# Altium schematic symbol library MCU_Module.SchLib: 53 symbols (part 1 of 2)
Pins are listed as number, name and electrical type; pins without a type are passive.

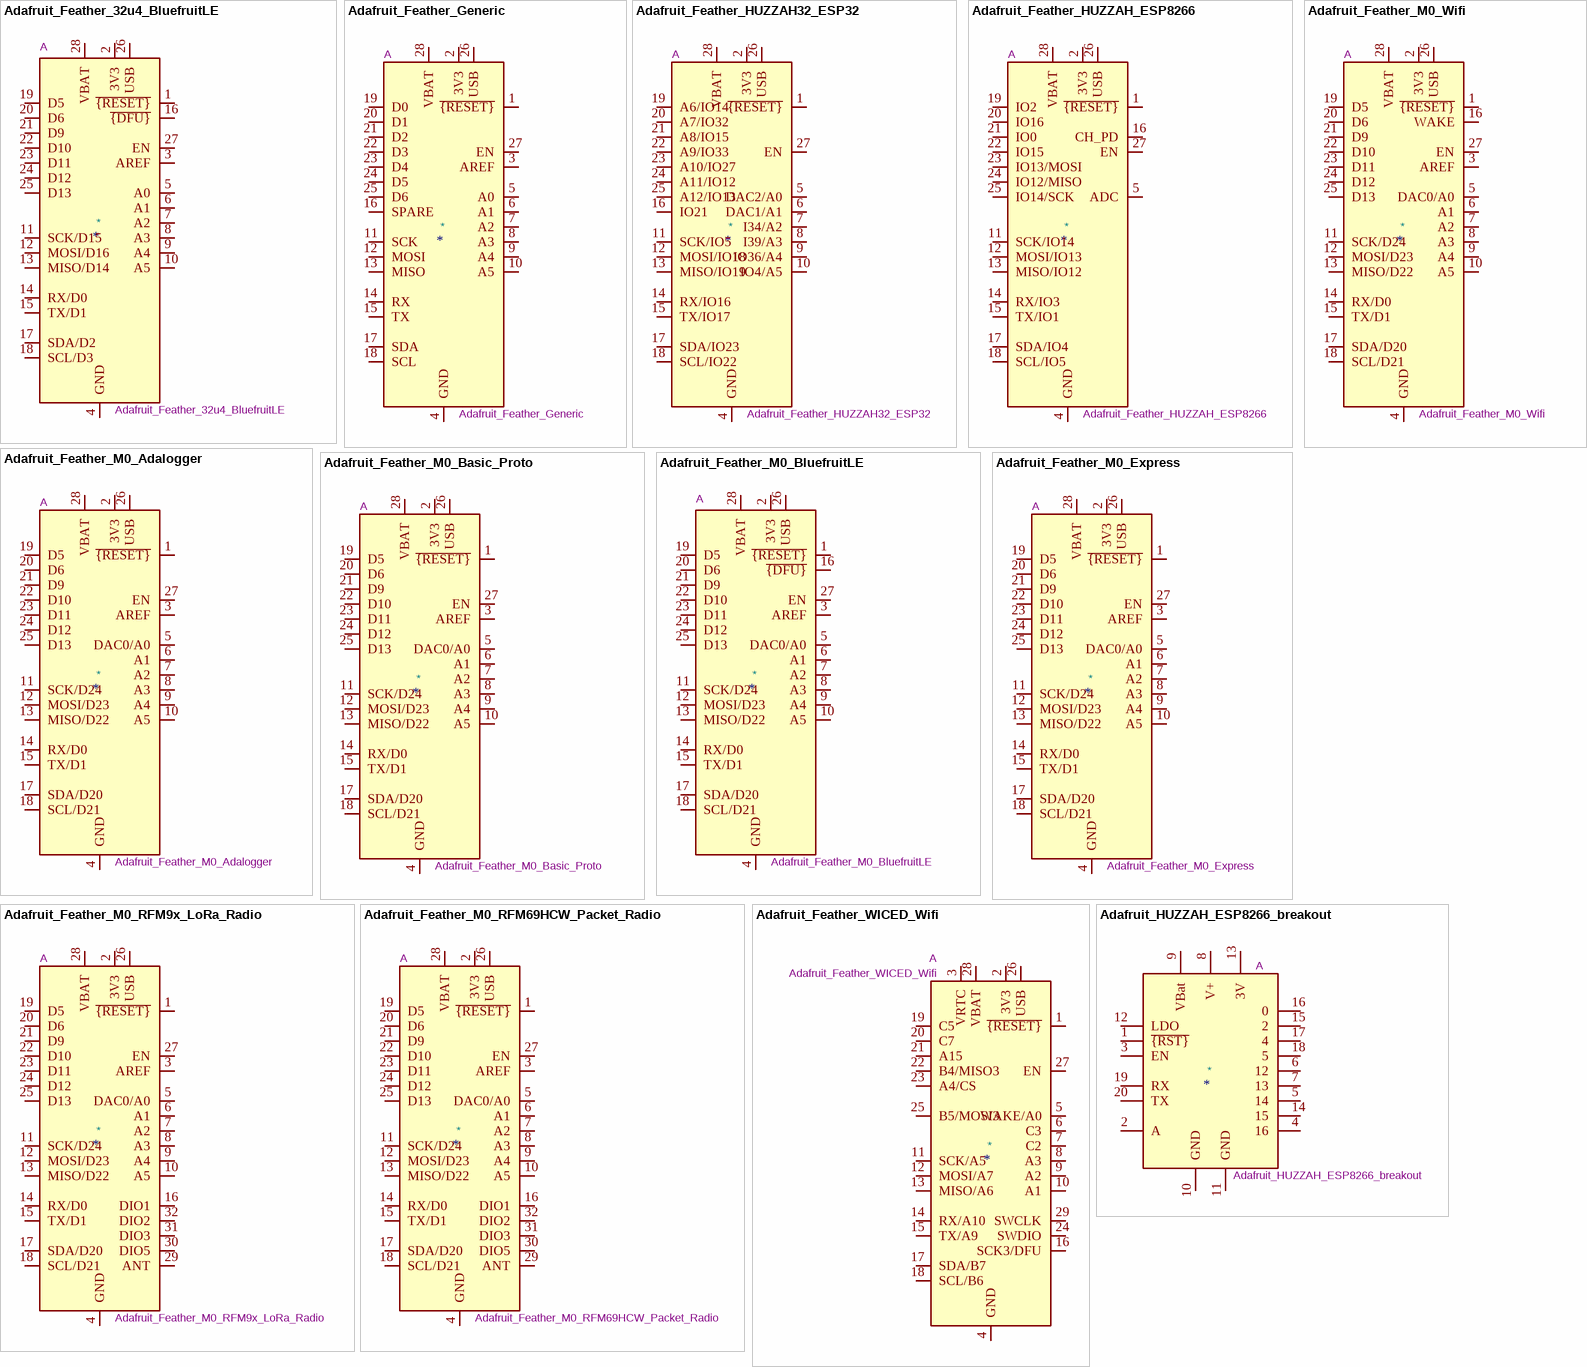
[diagram p0: symbols Adafruit_Feather_32u4_BluefruitLE to Adafruit_HUZZAH_ESP8266_breakout]

## Adafruit_Feather_32u4_BluefruitLE
designator *  value Adafruit_Feather_32u4_BluefruitLE  Reference: A
ki_keywords: Adafruit feather microcontroller module USB AVR ATmega32U4  Bluetooth BLE; ki_description: Microcontroller module with ATmega32u4 MCU and bluetooth; ki_fp_filters: Adafruit*Feather*; Footprint: Module:Adafruit_Feather; Datasheet: https://cdn-learn.adafruit.com/downloads/pdf/adafruit-feather-32u4-bluefruit-le.pdf
pins: 1 ~{{RESET}}, 2 3V3, 3 AREF, 4 GND, 5 A0, 6 A1, 7 A2, 8 A3, 9 A4, 10 A5, 11 SCK/D15, 12 MOSI/D16, 13 MISO/D14, 14 RX/D0, 15 TX/D1, 16 ~{{DFU}}, 17 SDA/D2, 18 SCL/D3, 19 D5, 20 D6, 21 D9, 22 D10, 23 D11, 24 D12, 25 D13, 26 USB, 27 EN, 28 VBAT

## Adafruit_Feather_Generic
designator *  value Adafruit_Feather_Generic  Reference: A
ki_keywords: Adafruit feather microcontroller module; ki_description: Microcontroller module in various flavor, generic symbol; ki_fp_filters: Adafruit*Feather*; Footprint: Module:Adafruit_Feather; Datasheet: https://cdn-learn.adafruit.com/downloads/pdf/adafruit-feather.pdf
pins: 1 ~{{RESET}}, 2 3V3, 3 AREF, 4 GND, 5 A0, 6 A1, 7 A2, 8 A3, 9 A4, 10 A5, 11 SCK, 12 MOSI, 13 MISO, 14 RX, 15 TX, 16 SPARE, 17 SDA, 18 SCL, 19 D0, 20 D1, 21 D2, 22 D3, 23 D4, 24 D5, 25 D6, 26 USB, 27 EN, 28 VBAT

## Adafruit_Feather_HUZZAH32_ESP32
designator *  value Adafruit_Feather_HUZZAH32_ESP32  Reference: A
ki_keywords: Adafruit feather microcontroller module USB; ki_description: Microcontroller module with ESP32 MCU; ki_fp_filters: Adafruit*Feather*; Footprint: Module:Adafruit_Feather; Datasheet: https://cdn-learn.adafruit.com/downloads/pdf/adafruit-huzzah32-esp32-feather.pdf
pins: 1 ~{{RESET}}, 2 3V3, 3 NC hidden, 4 GND, 5 DAC2/A0, 6 DAC1/A1, 7 I34/A2, 8 I39/A3, 9 IO36/A4, 10 IO4/A5, 11 SCK/IO5, 12 MOSI/IO18, 13 MISO/IO19, 14 RX/IO16, 15 TX/IO17, 16 IO21, 17 SDA/IO23, 18 SCL/IO22, 19 A6/IO14, 20 A7/IO32, 21 A8/IO15, 22 A9/IO33, 23 A10/IO27, 24 A11/IO12, 25 A12/IO13, 26 USB, 27 EN, 28 VBAT

## Adafruit_Feather_HUZZAH_ESP8266
designator *  value Adafruit_Feather_HUZZAH_ESP8266  Reference: A
ki_keywords: Adafruit feather microcontroller module USB; ki_description: Microcontroller module with ESP8266 MCU; ki_fp_filters: Adafruit*Feather*; Footprint: Module:Adafruit_Feather; Datasheet: https://cdn-learn.adafruit.com/downloads/pdf/adafruit-feather-huzzah-esp8266.pdf
pins: 1 ~{{RESET}}, 2 3V3, 3 NC hidden, 4 GND, 5 ADC, 6 NC hidden, 7 NC hidden, 8 NC hidden, 9 NC hidden, 10 NC hidden, 11 SCK/IO14, 12 MOSI/IO13, 13 MISO/IO12, 14 RX/IO3, 15 TX/IO1, 16 CH_PD, 17 SDA/IO4, 18 SCL/IO5, 19 IO2, 20 IO16, 21 IO0, 22 IO15, 23 IO13/MOSI, 24 IO12/MISO, 25 IO14/SCK, 26 USB, 27 EN, 28 VBAT

## Adafruit_Feather_M0_Adalogger
designator *  value Adafruit_Feather_M0_Adalogger  Reference: A
ki_keywords: Adafruit feather microcontroller module USB SD; ki_description: Microcontroller module with SAMD21 Cortex-M0 MCU and SD card reader; ki_fp_filters: Adafruit*Feather*; Footprint: Module:Adafruit_Feather; Datasheet: https://cdn-learn.adafruit.com/downloads/pdf/adafruit-feather-m0-adalogger.pdf
pins: 1 ~{{RESET}}, 2 3V3, 3 AREF, 4 GND, 5 DAC0/A0, 6 A1, 7 A2, 8 A3, 9 A4, 10 A5, 11 SCK/D24, 12 MOSI/D23, 13 MISO/D22, 14 RX/D0, 15 TX/D1, 16 GND hidden, 17 SDA/D20, 18 SCL/D21, 19 D5, 20 D6, 21 D9, 22 D10, 23 D11, 24 D12, 25 D13, 26 USB, 27 EN, 28 VBAT

## Adafruit_Feather_M0_Basic_Proto
designator *  value Adafruit_Feather_M0_Basic_Proto  Reference: A
ki_keywords: Adafruit feather microcontroller module USB M0 SAMD21; ki_description: Microcontroller module with SAMD21 Cortex-M0 MCU; ki_fp_filters: Adafruit*Feather*; Footprint: Module:Adafruit_Feather; Datasheet: https://cdn-learn.adafruit.com/downloads/pdf/adafruit-feather-m0-basic-proto.pdf
pins: 1 ~{{RESET}}, 2 3V3, 3 AREF, 4 GND, 5 DAC0/A0, 6 A1, 7 A2, 8 A3, 9 A4, 10 A5, 11 SCK/D24, 12 MOSI/D23, 13 MISO/D22, 14 RX/D0, 15 TX/D1, 16 GND hidden, 17 SDA/D20, 18 SCL/D21, 19 D5, 20 D6, 21 D9, 22 D10, 23 D11, 24 D12, 25 D13, 26 USB, 27 EN, 28 VBAT

## Adafruit_Feather_M0_BluefruitLE
designator *  value Adafruit_Feather_M0_BluefruitLE  Reference: A
ki_keywords: Adafruit feather microcontroller module USB M0 SAMD21 Bluetooth BLE; ki_description: Microcontroller module with SAMD21 Cortex-M0 MCU and bluetooth; ki_fp_filters: Adafruit*Feather*; Footprint: Module:Adafruit_Feather; Datasheet: https://cdn-learn.adafruit.com/downloads/pdf/adafruit-feather-m0-bluefruit-le.pdf
pins: 1 ~{{RESET}}, 2 3V3, 3 AREF, 4 GND, 5 DAC0/A0, 6 A1, 7 A2, 8 A3, 9 A4, 10 A5, 11 SCK/D24, 12 MOSI/D23, 13 MISO/D22, 14 RX/D0, 15 TX/D1, 16 ~{{DFU}}, 17 SDA/D20, 18 SCL/D21, 19 D5, 20 D6, 21 D9, 22 D10, 23 D11, 24 D12, 25 D13, 26 USB, 27 EN, 28 VBAT

## Adafruit_Feather_M0_Express
designator *  value Adafruit_Feather_M0_Express  Reference: A
ki_keywords: Adafruit feather microcontroller module USB SPI Flash CircuitPython; ki_description: Microcontroller module with SAMD21 Cortex-M0 MCU and SPI Flash; ki_fp_filters: Adafruit*Feather*; Footprint: Module:Adafruit_Feather; Datasheet: https://cdn-learn.adafruit.com/downloads/pdf/adafruit-feather-m0-express-designed-for-circuit-python-circuitpython.pdf
pins: 1 ~{{RESET}}, 2 3V3, 3 AREF, 4 GND, 5 DAC0/A0, 6 A1, 7 A2, 8 A3, 9 A4, 10 A5, 11 SCK/D24, 12 MOSI/D23, 13 MISO/D22, 14 RX/D0, 15 TX/D1, 16 GND hidden, 17 SDA/D20, 18 SCL/D21, 19 D5, 20 D6, 21 D9, 22 D10, 23 D11, 24 D12, 25 D13, 26 USB, 27 EN, 28 VBAT

## Adafruit_Feather_M0_RFM9x_LoRa_Radio
designator *  value Adafruit_Feather_M0_RFM9x_LoRa_Radio  Reference: A
ki_keywords: Adafruit feather microcontroller module USB M0 SAMD21 LoRa Radio; ki_description: Microcontroller module with SAMD21 Cortex-M0 MCU and RFM9x Radio; ki_fp_filters: Adafruit*Feather*; Footprint: Module:Adafruit_Feather_M0_RFM; Datasheet: https://cdn-learn.adafruit.com/downloads/pdf/adafruit-feather-m0-radio-with-lora-radio-module.pdf
pins: 1 ~{{RESET}}, 2 3V3, 3 AREF, 4 GND, 5 DAC0/A0, 6 A1, 7 A2, 8 A3, 9 A4, 10 A5, 11 SCK/D24, 12 MOSI/D23, 13 MISO/D22, 14 RX/D0, 15 TX/D1, 16 DIO1, 17 SDA/D20, 18 SCL/D21, 19 D5, 20 D6, 21 D9, 22 D10, 23 D11, 24 D12, 25 D13, 26 USB, 27 EN, 28 VBAT, 29 ANT, 30 DIO5, 31 DIO3, 32 DIO2

## Adafruit_Feather_M0_RFM69HCW_Packet_Radio
designator *  value Adafruit_Feather_M0_RFM69HCW_Packet_Radio  Reference: A
ki_keywords: Adafruit feather microcontroller module USB M0 SAMD21 Radio; ki_description: Microcontroller module with SAMD21 Cortex-M0 MCU and RFM69HCW Radio; ki_fp_filters: Adafruit*Feather*; Footprint: Module:Adafruit_Feather_M0_RFM; Datasheet: https://cdn-learn.adafruit.com/downloads/pdf/adafruit-feather-m0-radio-with-rfm69-packet-radio.pdf
pins: 1 ~{{RESET}}, 2 3V3, 3 AREF, 4 GND, 5 DAC0/A0, 6 A1, 7 A2, 8 A3, 9 A4, 10 A5, 11 SCK/D24, 12 MOSI/D23, 13 MISO/D22, 14 RX/D0, 15 TX/D1, 16 DIO1, 17 SDA/D20, 18 SCL/D21, 19 D5, 20 D6, 21 D9, 22 D10, 23 D11, 24 D12, 25 D13, 26 USB, 27 EN, 28 VBAT, 29 ANT, 30 DIO5, 31 DIO3, 32 DIO2

## Adafruit_Feather_M0_Wifi
designator *  value Adafruit_Feather_M0_Wifi  Reference: A
ki_keywords: Adafruit feather microcontroller module USB M0 SAMD21 Wifi ATWINC1500; ki_description: Microcontroller module with SAMD21 Cortex-M0 MCU and ATWINC1500 Wifi; ki_fp_filters: Adafruit*Feather*; Footprint: Module:Adafruit_Feather_M0_Wifi; Datasheet: https://cdn-learn.adafruit.com/downloads/pdf/adafruit-feather-m0-wifi-atwinc1500.pdf
pins: 1 ~{{RESET}}, 2 3V3, 3 AREF, 4 GND, 5 DAC0/A0, 6 A1, 7 A2, 8 A3, 9 A4, 10 A5, 11 SCK/D24, 12 MOSI/D23, 13 MISO/D22, 14 RX/D0, 15 TX/D1, 16 WAKE, 17 SDA/D20, 18 SCL/D21, 19 D5, 20 D6, 21 D9, 22 D10, 23 D11, 24 D12, 25 D13, 26 USB, 27 EN, 28 VBAT

## Adafruit_Feather_WICED_Wifi
designator *  value Adafruit_Feather_WICED_Wifi  Reference: A
ki_keywords: Adafruit feather microcontroller module USB M3 STM32F205 Wifi; ki_description: Microcontroller module with STM32F205 Cortex-M3 MCU and BCM43362 Wifi; ki_fp_filters: Adafruit*Feather*; Footprint: Module:Adafruit_Feather_WICED; Datasheet: https://cdn-learn.adafruit.com/downloads/pdf/introducing-the-adafruit-wiced-feather-wifi.pdf
pins: 1 ~{{RESET}}, 2 3V3, 3 VRTC, 4 GND, 5 WAKE/A0, 6 C3, 7 C2, 8 A3, 9 A2, 10 A1, 11 SCK/A5, 12 MOSI/A7, 13 MISO/A6, 14 RX/A10, 15 TX/A9, 16 SCK3/DFU, 17 SDA/B7, 18 SCL/B6, 19 C5, 20 C7, 21 A15, 22 B4/MISO3, 23 A4/CS, 24 SWDIO, 25 B5/MOSI3, 26 USB, 27 EN, 28 VBAT, 29 SWCLK

## Adafruit_HUZZAH_ESP8266_breakout
designator *  value Adafruit_HUZZAH_ESP8266_breakout  Reference: A
ki_keywords: ESP8266 WiFi microcontroller; ki_description: 32-bit microcontroller module with WiFi; ki_fp_filters: Adafruit*HUZZAH*ESP8266*breakout* Adafruit*HUZZAH*ESP8266*breakout*WithMountingHoles*; Datasheet: https://www.adafruit.com/product/2471
pins: 1 ~{{RST}}, 2 A, 3 EN, 4 16, 5 14, 6 12, 7 13, 8 V+, 9 VBat, 10 GND, 11 GND, 12 LDO, 13 3V, 14 15, 15 2, 16 0, 17 4, 18 5, 19 RX, 20 TX

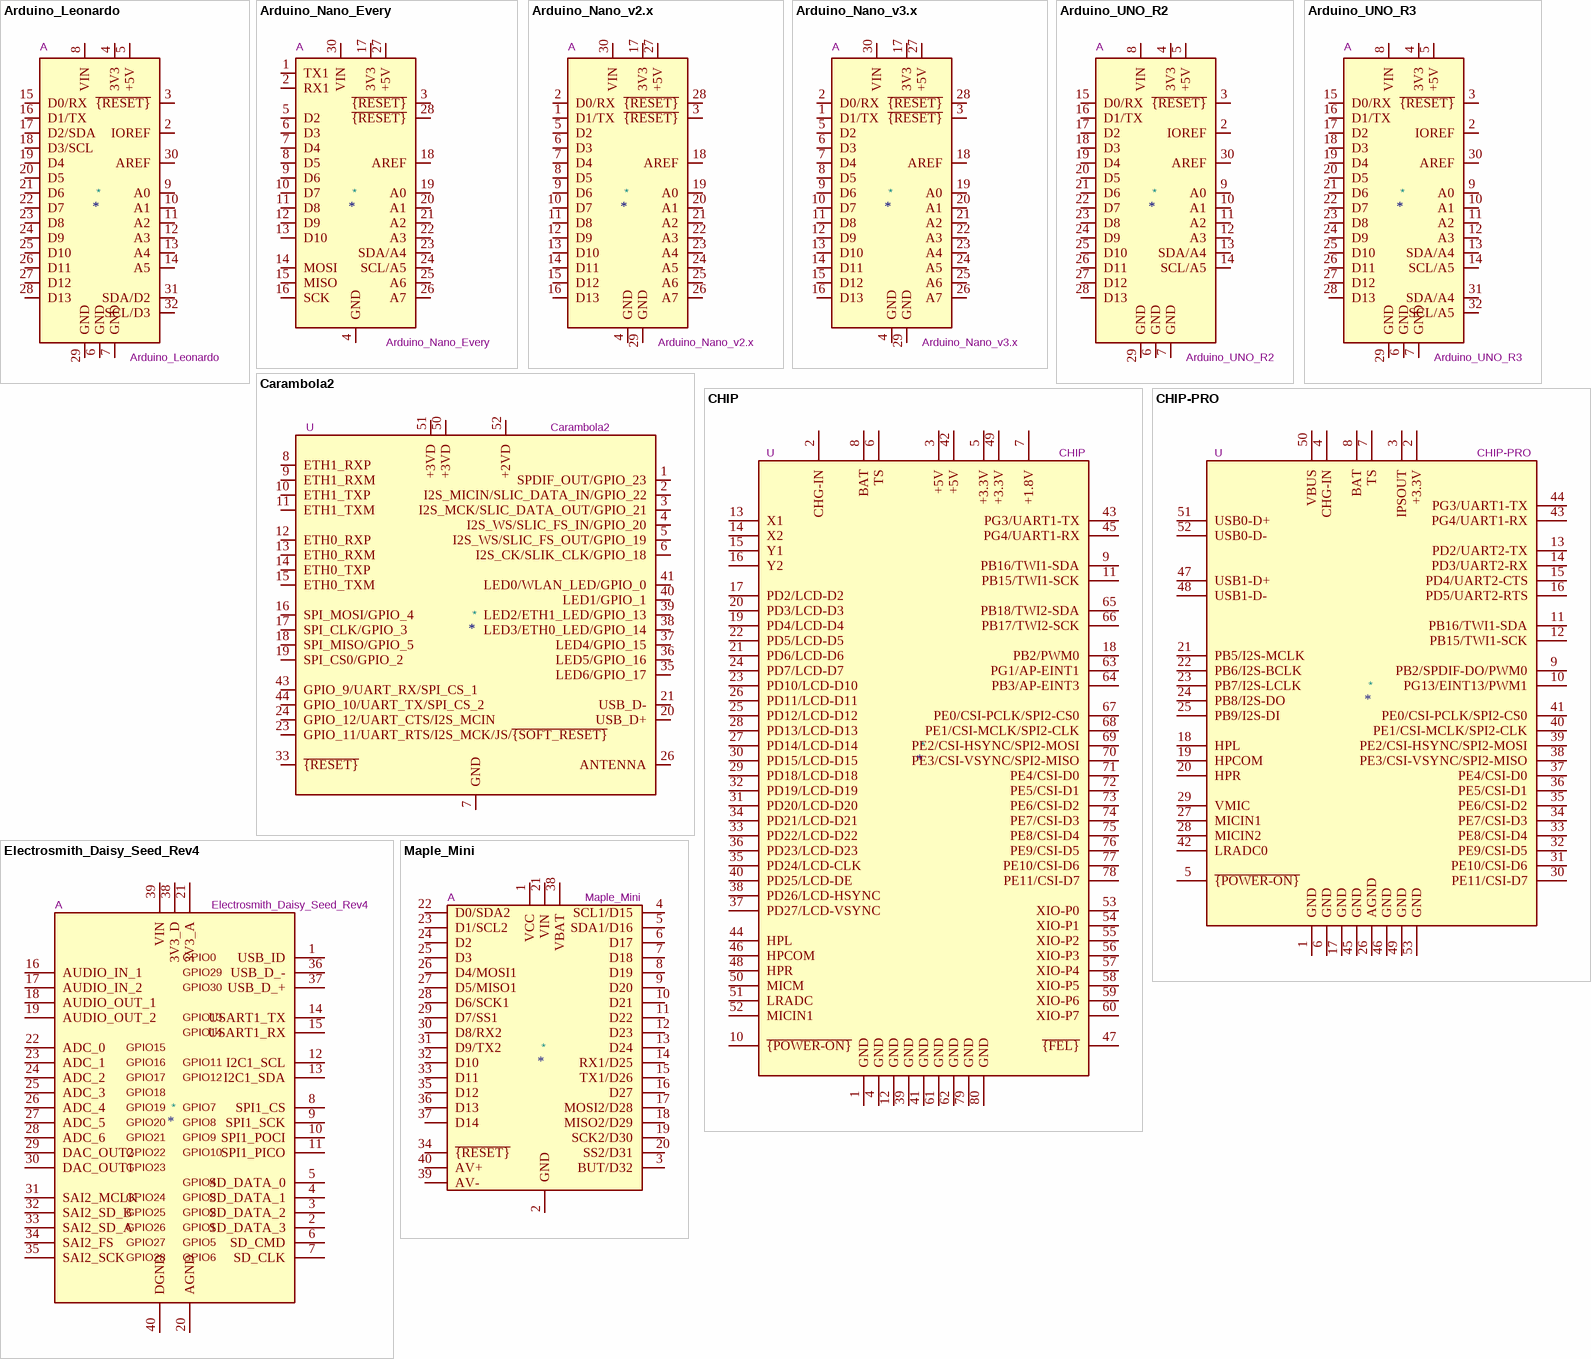
[diagram p1: symbols Arduino_Leonardo to Maple_Mini]

## Arduino_Leonardo
designator *  value Arduino_Leonardo  Reference: A
ki_keywords: Arduino LEONARDO Microcontroller Module Atmel AVR USB; ki_description: Arduino LEONARDO Microcontroller Module; ki_fp_filters: Arduino*UNO*R3*; Footprint: Module:Arduino_UNO_R3; Datasheet: https://www.arduino.cc/en/Main/ArduinoBoardLeonardo
pins: 1 NC hidden, 2 IOREF, 3 ~{{RESET}}, 4 3V3, 5 +5V, 6 GND, 7 GND, 8 VIN, 9 A0, 10 A1, 11 A2, 12 A3, 13 A4, 14 A5, 15 D0/RX, 16 D1/TX, 17 D2/SDA, 18 D3/SCL, 19 D4, 20 D5, 21 D6, 22 D7, 23 D8, 24 D9, 25 D10, 26 D11, 27 D12, 28 D13, 29 GND, 30 AREF, 31 SDA/D2, 32 SCL/D3

## Arduino_Nano_Every
designator *  value Arduino_Nano_Every  Reference: A
ki_keywords: Arduino nano microcontroller module USB UPDI AATMega4809 AVR; ki_description: Arduino Nano Every; ki_fp_filters: Arduino*Nano*; Footprint: Module:Arduino_Nano; Datasheet: https://content.arduino.cc/assets/NANOEveryV3.0_sch.pdf
pins: 1 TX1, 2 RX1, 3 ~{{RESET}}, 4 GND, 5 D2, 6 D3, 7 D4, 8 D5, 9 D6, 10 D7, 11 D8, 12 D9, 13 D10, 14 MOSI, 15 MISO, 16 SCK, 17 3V3, 18 AREF, 19 A0, 20 A1, 21 A2, 22 A3, 23 SDA/A4, 24 SCL/A5, 25 A6, 26 A7, 27 +5V, 28 ~{{RESET}}, 29 GND hidden, 30 VIN

## Arduino_Nano_v2.x
designator *  value Arduino_Nano_v2.x  Reference: A
ki_keywords: Arduino nano microcontroller module USB; ki_description: Arduino Nano v2.x; ki_fp_filters: Arduino*Nano*; Footprint: Module:Arduino_Nano; Datasheet: https://www.arduino.cc/en/uploads/Main/ArduinoNanoManual23.pdf
pins: 1 D1/TX, 2 D0/RX, 3 ~{{RESET}}, 4 GND, 5 D2, 6 D3, 7 D4, 8 D5, 9 D6, 10 D7, 11 D8, 12 D9, 13 D10, 14 D11, 15 D12, 16 D13, 17 3V3, 18 AREF, 19 A0, 20 A1, 21 A2, 22 A3, 23 A4, 24 A5, 25 A6, 26 A7, 27 +5V, 28 ~{{RESET}}, 29 GND, 30 VIN

## Arduino_Nano_v3.x
designator *  value Arduino_Nano_v3.x  Reference: A
ki_keywords: Arduino nano microcontroller module USB; ki_description: Arduino Nano v3.x; ki_fp_filters: Arduino*Nano*; Footprint: Module:Arduino_Nano; Datasheet: http://www.mouser.com/pdfdocs/Gravitech_Arduino_Nano3_0.pdf
pins: 1 D1/TX, 2 D0/RX, 3 ~{{RESET}}, 4 GND, 5 D2, 6 D3, 7 D4, 8 D5, 9 D6, 10 D7, 11 D8, 12 D9, 13 D10, 14 D11, 15 D12, 16 D13, 17 3V3, 18 AREF, 19 A0, 20 A1, 21 A2, 22 A3, 23 A4, 24 A5, 25 A6, 26 A7, 27 +5V, 28 ~{{RESET}}, 29 GND, 30 VIN

## Arduino_UNO_R2
designator *  value Arduino_UNO_R2  Reference: A
ki_keywords: Arduino UNO R3 Microcontroller Module Atmel AVR USB; ki_description: Arduino UNO Microcontroller Module, release 2; ki_fp_filters: Arduino*UNO*R2*; Footprint: Module:Arduino_UNO_R2; Datasheet: https://www.arduino.cc/en/Main/arduinoBoardUno
pins: 1 NC hidden, 2 IOREF, 3 ~{{RESET}}, 4 3V3, 5 +5V, 6 GND, 7 GND, 8 VIN, 9 A0, 10 A1, 11 A2, 12 A3, 13 SDA/A4, 14 SCL/A5, 15 D0/RX, 16 D1/TX, 17 D2, 18 D3, 19 D4, 20 D5, 21 D6, 22 D7, 23 D8, 24 D9, 25 D10, 26 D11, 27 D12, 28 D13, 29 GND, 30 AREF

## Arduino_UNO_R3
designator *  value Arduino_UNO_R3  Reference: A
ki_keywords: Arduino UNO R3 Microcontroller Module Atmel AVR USB; ki_description: Arduino UNO Microcontroller Module, release 3; ki_fp_filters: Arduino*UNO*R3*; Footprint: Module:Arduino_UNO_R3; Datasheet: https://www.arduino.cc/en/Main/arduinoBoardUno
pins: 1 NC hidden, 2 IOREF, 3 ~{{RESET}}, 4 3V3, 5 +5V, 6 GND, 7 GND, 8 VIN, 9 A0, 10 A1, 11 A2, 12 A3, 13 SDA/A4, 14 SCL/A5, 15 D0/RX, 16 D1/TX, 17 D2, 18 D3, 19 D4, 20 D5, 21 D6, 22 D7, 23 D8, 24 D9, 25 D10, 26 D11, 27 D12, 28 D13, 29 GND, 30 AREF, 31 SDA/A4, 32 SCL/A5

## Carambola2
designator *  value Carambola2  Reference: U
ki_keywords: carambola, 8devices, openwrt, board, wlan; ki_description: Qualcomm AR9331, 16MB Flash, 64MB RAM, USB, Serial, Ethernet, GPIO, OpenWRT, industrial SoM computer; ki_fp_filters: Carambola2*; Footprint: Module:Carambola2; Datasheet: https://www.8devices.com/media/products/carambola2/downloads/carambola2-datasheet.pdf
pins: 1 SPDIF_OUT/GPIO_23, 2 I2S_MICIN/SLIC_DATA_IN/GPIO_22, 3 I2S_MCK/SLIC_DATA_OUT/GPIO_21, 4 I2S_WS/SLIC_FS_IN/GPIO_20, 5 I2S_WS/SLIC_FS_OUT/GPIO_19, 6 I2S_CK/SLIK_CLK/GPIO_18, 7 GND, 8 ETH1_RXP, 9 ETH1_RXM, 10 ETH1_TXP, 11 ETH1_TXM, 12 ETH0_RXP, 13 ETH0_RXM, 14 ETH0_TXP, 15 ETH0_TXM, 16 SPI_MOSI/GPIO_4, 17 SPI_CLK/GPIO_3, 18 SPI_MISO/GPIO_5, 19 SPI_CS0/GPIO_2, 20 USB_D+, 21 USB_D-, 22 GND hidden, 23 GPIO_11/UART_RTS/I2S_MCK/JS/~{{SOFT_RESET}}, 24 GPIO_12/UART_CTS/I2S_MCIN, 25 GND hidden, 26 ANTENNA, 27 GND hidden, 28 GND hidden, 29 GND hidden, 30 GND hidden, 31 GND hidden, 32 GND hidden, 33 ~{{RESET}}, 34 GND hidden, 35 LED6/GPIO_17, 36 LED5/GPIO_16, 37 LED4/GPIO_15, 38 LED3/ETH0_LED/GPIO_14, 39 LED2/ETH1_LED/GPIO_13, 40 LED1/GPIO_1, 41 LED0/WLAN_LED/GPIO_0, 42 GND hidden, 43 GPIO_9/UART_RX/SPI_CS_1, 44 GPIO_10/UART_TX/SPI_CS_2, 45 GND hidden, 46 GND hidden, 47 GND hidden, 48 GND hidden, 49 GND hidden, 50 +3VD, 51 +3VD, 52 +2VD

## CHIP
designator *  value CHIP  Reference: U
ki_keywords: nextthingco chip module; ki_description: NextThingCo C.H.I.P. Module; ki_fp_filters: MODULE*NEXTTHINGCO*CHIP*; Footprint: Module:MODULE_NEXTTHINGCO_CHIP; Datasheet: https://github.com/NextThingCo/CHIP-Hardware/tree/master/CHIP%5Bv1_0%5D
pins: 1 GND, 2 CHG-IN, 3 +5V, 4 GND, 5 +3.3V, 6 TS, 7 +1.8V, 8 BAT, 9 PB16/TWI1-SDA, 10 ~{{POWER-ON}}, 11 PB15/TWI1-SCK, 12 GND, 13 X1, 14 X2, 15 Y1, 16 Y2, 17 PD2/LCD-D2, 18 PB2/PWM0, 19 PD4/LCD-D4, 20 PD3/LCD-D3, 21 PD6/LCD-D6, 22 PD5/LCD-D5, 23 PD10/LCD-D10, 24 PD7/LCD-D7, 25 PD12/LCD-D12, 26 PD11/LCD-D11, 27 PD14/LCD-D14, 28 PD13/LCD-D13, 29 PD18/LCD-D18, 30 PD15/LCD-D15, 31 PD20/LCD-D20, 32 PD19/LCD-D19, 33 PD22/LCD-D22, 34 PD21/LCD-D21, 35 PD24/LCD-CLK, 36 PD23/LCD-D23, 37 PD27/LCD-VSYNC, 38 PD26/LCD-HSYNC, 39 GND, 40 PD25/LCD-DE, 41 GND, 42 +5V, 43 PG3/UART1-TX, 44 HPL, 45 PG4/UART1-RX, 46 HPCOM, 47 ~{{FEL}}, 48 HPR, 49 +3.3V, 50 MICM, 51 LRADC, 52 MICIN1, 53 XIO-P0, 54 XIO-P1, 55 XIO-P2, 56 XIO-P3, 57 XIO-P4, 58 XIO-P5, 59 XIO-P6, 60 XIO-P7, 61 GND, 62 GND, 63 PG1/AP-EINT1, 64 PB3/AP-EINT3, 65 PB18/TWI2-SDA, 66 PB17/TWI2-SCK, 67 PE0/CSI-PCLK/SPI2-CS0, 68 PE1/CSI-MCLK/SPI2-CLK, 69 PE2/CSI-HSYNC/SPI2-MOSI, 70 PE3/CSI-VSYNC/SPI2-MISO, 71 PE4/CSI-D0, 72 PE5/CSI-D1, 73 PE6/CSI-D2, 74 PE7/CSI-D3, 75 PE8/CSI-D4, 76 PE9/CSI-D5, 77 PE10/CSI-D6, 78 PE11/CSI-D7, 79 GND, 80 GND

## CHIP-PRO
designator *  value CHIP-PRO  Reference: U
ki_keywords: nextthingco chip pro module; ki_description: NextThingCo C.H.I.P. Pro Module; ki_fp_filters: MODULE*NEXTTHINGCO*CHIPPRO*; Footprint: Module:MODULE_NEXTTHINGCO_CHIPPRO; Datasheet: https://github.com/NextThingCo/CHIP_Pro-Hardware/blob/master/Datasheets/CHIP_PRO_Datasheet_v1.0.pdf
pins: 1 GND, 2 +3.3V, 3 IPSOUT, 4 CHG-IN, 5 ~{{POWER-ON}}, 6 GND, 7 TS, 8 BAT, 9 PB2/SPDIF-DO/PWM0, 10 PG13/EINT13/PWM1, 11 PB16/TWI1-SDA, 12 PB15/TWI1-SCK, 13 PD2/UART2-TX, 14 PD3/UART2-RX, 15 PD4/UART2-CTS, 16 PD5/UART2-RTS, 17 GND, 18 HPL, 19 HPCOM, 20 HPR, 21 PB5/I2S-MCLK, 22 PB6/I2S-BCLK, 23 PB7/I2S-LCLK, 24 PB8/I2S-DO, 25 PB9/I2S-DI, 26 AGND, 27 MICIN1, 28 MICIN2, 29 VMIC, 30 PE11/CSI-D7, 31 PE10/CSI-D6, 32 PE9/CSI-D5, 33 PE8/CSI-D4, 34 PE7/CSI-D3, 35 PE6/CSI-D2, 36 PE5/CSI-D1, 37 PE4/CSI-D0, 38 PE3/CSI-VSYNC/SPI2-MISO, 39 PE2/CSI-HSYNC/SPI2-MOSI, 40 PE1/CSI-MCLK/SPI2-CLK, 41 PE0/CSI-PCLK/SPI2-CS0, 42 LRADC0, 43 PG4/UART1-RX, 44 PG3/UART1-TX, 45 GND, 46 GND, 47 USB1-D+, 48 USB1-D-, 49 GND, 50 VBUS, 51 USB0-D+, 52 USB0-D-, 53 GND

## Electrosmith_Daisy_Seed_Rev4
designator *  value Electrosmith_Daisy_Seed_Rev4  Reference: A
ki_keywords: Electrosmith Daisy Seed Microcontroller Module ARM Cortex-M7; ki_description: Daisy is an embedded platform for music.; ki_fp_filters: Electrosmith*Daisy*Seed*; Footprint: Module:Electrosmith_Daisy_Seed; Datasheet: https://static1.squarespace.com/static/58d03fdc1b10e3bf442567b8/t/6227e6236f02fb68d1577146/1646781988478/Daisy_Seed_datasheet_v1.0.3.pdf
pins: 1 USB_ID, 2 SD_DATA_3, 3 SD_DATA_2, 4 SD_DATA_1, 5 SD_DATA_0, 6 SD_CMD, 7 SD_CLK, 8 SPI1_CS, 9 SPI1_SCK, 10 SPI1_POCI, 11 SPI1_PICO, 12 I2C1_SCL, 13 I2C1_SDA, 14 USART1_TX, 15 USART1_RX, 16 AUDIO_IN_1, 17 AUDIO_IN_2, 18 AUDIO_OUT_1, 19 AUDIO_OUT_2, 20 AGND, 21 3V3_A, 22 ADC_0, 23 ADC_1, 24 ADC_2, 25 ADC_3, 26 ADC_4, 27 ADC_5, 28 ADC_6, 29 DAC_OUT2, 30 DAC_OUT1, 31 SAI2_MCLK, 32 SAI2_SD_B, 33 SAI2_SD_A, 34 SAI2_FS, 35 SAI2_SCK, 36 USB_D_-, 37 USB_D_+, 38 3V3_D, 39 VIN, 40 DGND
text: GPIO0; GPIO29; GPIO30; GPIO13; GPIO14; GPIO15; GPIO16; GPIO11; GPIO17; GPIO12; GPIO18; GPIO19; GPIO7; GPIO20; GPIO8; GPIO21; GPIO9; GPIO22; GPIO10; GPIO23; GPIO4; GPIO24; GPIO3; GPIO25; GPIO2; GPIO26; GPIO1; GPIO27; GPIO5; GPIO28; GPIO6

## Maple_Mini
designator *  value Maple_Mini  Reference: A
ki_keywords: Maple Mini Microcontroller Module LeafLabs STM32 STM32F103; ki_description: Maple Mini Microcontroller Module by LeafLabs; ki_fp_filters: Maple*Mini*; Footprint: Module:Maple_Mini; Datasheet: http://docs.leaflabs.com/static.leaflabs.com/pub/leaflabs/maple-docs/0.0.12/hardware/maple-mini.html
pins: 1 VCC, 2 GND, 3 BUT/D32, 4 SCL1/D15, 5 SDA1/D16, 6 D17, 7 D18, 8 D19, 9 D20, 10 D21, 11 D22, 12 D23, 13 D24, 14 RX1/D25, 15 TX1/D26, 16 D27, 17 MOSI2/D28, 18 MISO2/D29, 19 SCK2/D30, 20 SS2/D31, 21 VIN, 22 D0/SDA2, 23 D1/SCL2, 24 D2, 25 D3, 26 D4/MOSI1, 27 D5/MISO1, 28 D6/SCK1, 29 D7/SS1, 30 D8/RX2, 31 D9/TX2, 32 D10, 33 D11, 34 ~{{RESET}}, 35 D12, 36 D13, 37 D14, 38 VBAT, 39 AV-, 40 AV+

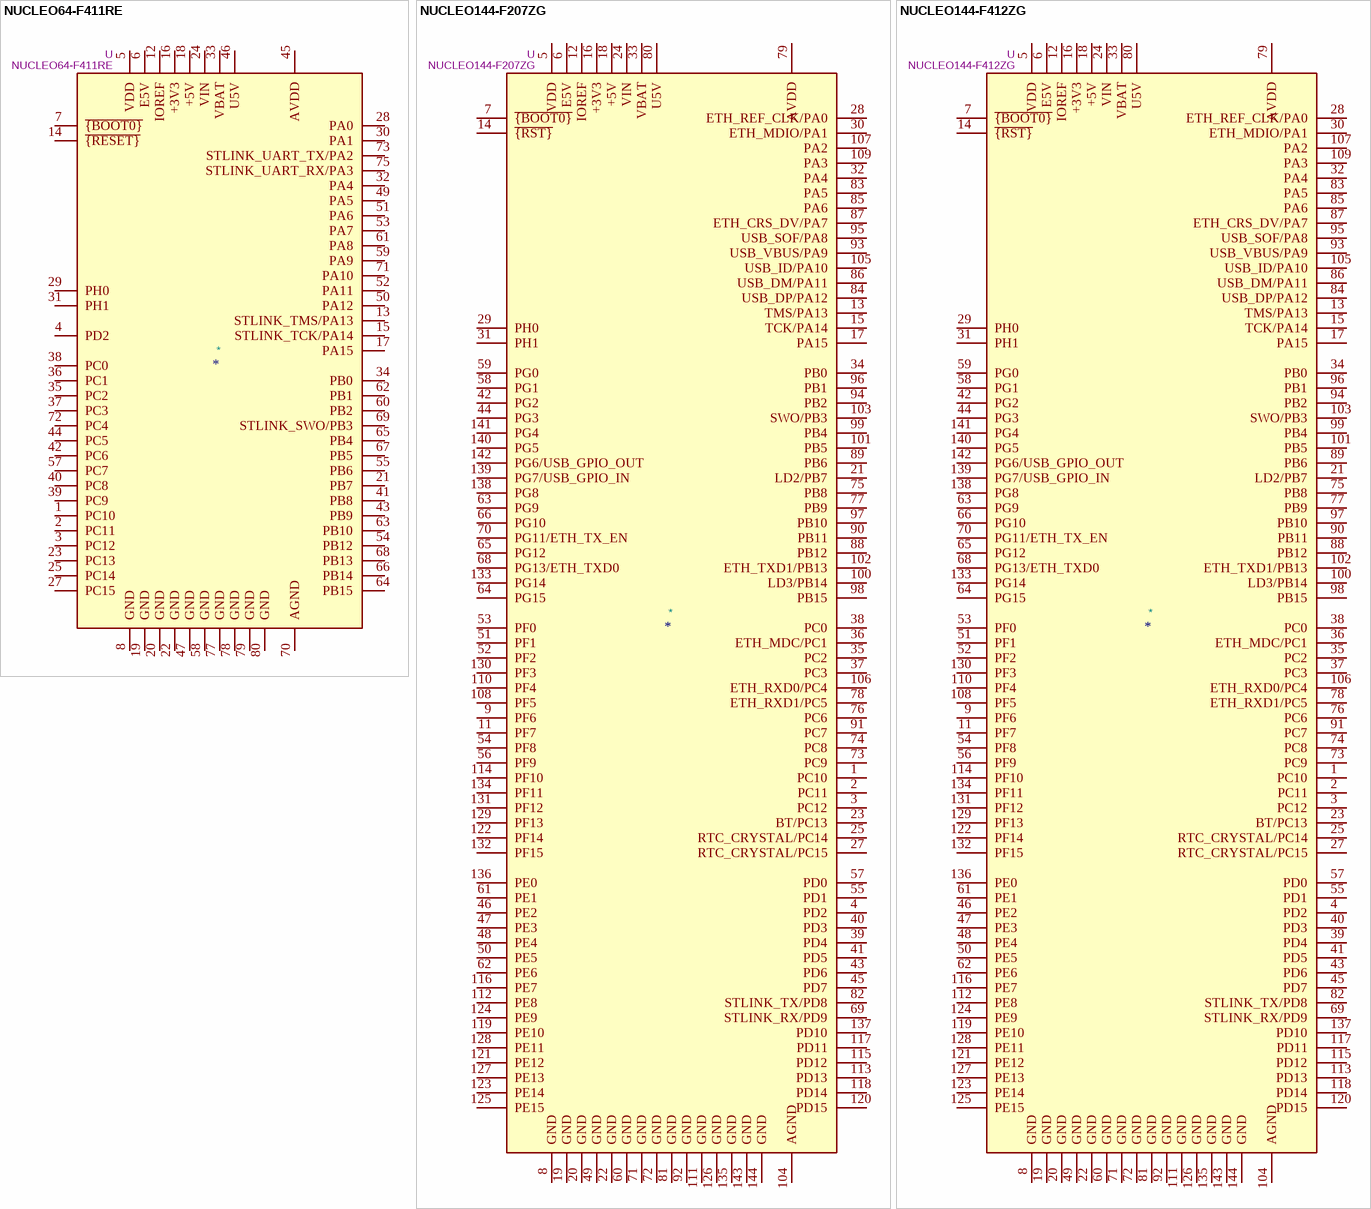
[diagram p2: symbols NUCLEO64-F411RE to NUCLEO144-F412ZG]

## NUCLEO64-F411RE
designator *  value NUCLEO64-F411RE  Reference: U
ki_keywords: STM32 Nucleo ST; ki_description: Nucleo 64 Development Board with STM32F411RET6 MCU, 128kB RAM, 512KB FLASH; ki_fp_filters: ST*Morpho*Connector*144*STLink*; Footprint: Module:ST_Morpho_Connector_144_STLink; Datasheet: http://www.st.com/st-web-ui/static/active/en/resource/technical/document/data_brief/DM00105918.pdf
pins: 1 PC10, 2 PC11, 3 PC12, 4 PD2, 5 VDD, 6 E5V, 7 ~{{BOOT0}}, 8 GND, 9 NC hidden, 10 NC hidden, 11 NC hidden, 12 IOREF, 13 STLINK_TMS/PA13, 14 ~{{RESET}}, 15 STLINK_TCK/PA14, 16 +3V3, 17 PA15, 18 +5V, 19 GND, 20 GND, 21 PB7, 22 GND, 23 PC13, 24 VIN, 25 PC14, 26 NC hidden, 27 PC15, 28 PA0, 29 PH0, 30 PA1, 31 PH1, 32 PA4, 33 VBAT, 34 PB0, 35 PC2, 36 PC1, 37 PC3, 38 PC0, 39 PC9, 40 PC8, 41 PB8, 42 PC6, 43 PB9, 44 PC5, 45 AVDD, 46 U5V, 47 GND, 48 NC hidden, 49 PA5, 50 PA12, 51 PA6, 52 PA11, 53 PA7, 54 PB12, 55 PB6, 56 NC hidden, 57 PC7, 58 GND, 59 PA9, 60 PB2, 61 PA8, 62 PB1, 63 PB10, 64 PB15, 65 PB4, 66 PB14, 67 PB5, 68 PB13, 69 STLINK_SWO/PB3, 70 AGND, 71 PA10, 72 PC4, 73 STLINK_UART_TX/PA2, 74 NC hidden, 75 STLINK_UART_RX/PA3, 76 NC hidden, 77 GND, 78 GND, 79 GND, 80 GND

## NUCLEO144-F207ZG
designator *  value NUCLEO144-F207ZG  Reference: U
ki_keywords: STM32 Nucleo ST; ki_description: Nucleo 144 Development Board with STM32F207ZGT6 MCU, 128+4Kb RAM, 1Mb FLASH; ki_fp_filters: ST*Morpho*Connector*144*STLink*; Footprint: Module:ST_Morpho_Connector_144_STLink; Datasheet: https://www.st.com/resource/en/user_manual/dm00244518-stm32-nucleo144-boards-stmicroelectronics.pdf
pins: 1 PC10, 2 PC11, 3 PC12, 4 PD2, 5 VDD, 6 E5V, 7 ~{{BOOT0}}, 8 GND, 9 PF6, 10 NC hidden, 11 PF7, 12 IOREF, 13 TMS/PA13, 14 ~{{RST}}, 15 TCK/PA14, 16 +3V3, 17 PA15, 18 +5V, 19 GND, 20 GND, 21 LD2/PB7, 22 GND, 23 BT/PC13, 24 VIN, 25 RTC_CRYSTAL/PC14, 26 NC hidden, 27 RTC_CRYSTAL/PC15, 28 ETH_REF_CLK/PA0, 29 PH0, 30 ETH_MDIO/PA1, 31 PH1, 32 PA4, 33 VBAT, 34 PB0, 35 PC2, 36 ETH_MDC/PC1, 37 PC3, 38 PC0, 39 PD4, 40 PD3, 41 PD5, 42 PG2, 43 PD6, 44 PG3, 45 PD7, 46 PE2, 47 PE3, 48 PE4, 49 GND, 50 PE5, 51 PF1, 52 PF2, 53 PF0, 54 PF8, 55 PD1, 56 PF9, 57 PD0, 58 PG1, 59 PG0, 60 GND, 61 PE1, 62 PE6, 63 PG9, 64 PG15, 65 PG12, 66 PG10, 67 NC hidden, 68 PG13/ETH_TXD0, 69 STLINK_RX/PD9, 70 PG11/ETH_TX_EN, 71 GND, 72 GND, 73 PC9, 74 PC8, 75 PB8, 76 PC6, 77 PB9, 78 ETH_RXD1/PC5, 79 AVDD, 80 U5V, 81 GND, 82 STLINK_TX/PD8, 83 PA5, 84 USB_DP/PA12, 85 PA6, 86 USB_DM/PA11, 87 ETH_CRS_DV/PA7, 88 PB12, 89 PB6, 90 PB11, 91 PC7, 92 GND, 93 USB_VBUS/PA9, 94 PB2, 95 USB_SOF/PA8, 96 PB1, 97 PB10, 98 PB15, 99 PB4, 100 LD3/PB14, 101 PB5, 102 ETH_TXD1/PB13, 103 SWO/PB3, 104 AGND, 105 USB_ID/PA10, 106 ETH_RXD0/PC4, 107 PA2, 108 PF5, 109 PA3, 110 PF4, 111 GND, 112 PE8, 113 PD13, 114 PF10, 115 PD12, 116 PE7, 117 PD11, 118 PD14, 119 PE10, 120 PD15, 121 PE12, 122 PF14, 123 PE14, 124 PE9, 125 PE15, 126 GND, 127 PE13, 128 PE11, 129 PF13, 130 PF3, 131 PF12, 132 PF15, 133 PG14, 134 PF11, 135 GND, 136 PE0, 137 PD10, 138 PG8, 139 PG7/USB_GPIO_IN, 140 PG5, 141 PG4, 142 PG6/USB_GPIO_OUT, 143 GND, 144 GND

## NUCLEO144-F412ZG
designator *  value NUCLEO144-F412ZG  Reference: U
ki_keywords: STM32 Nucleo ST; ki_description: Nucleo 144 Development Board with STM32F412ZGT6 MCU, 256kB RAM, 1Mb FLASH; ki_fp_filters: ST*Morpho*Connector*144*STLink*; Footprint: Module:ST_Morpho_Connector_144_STLink; Datasheet: https://www.st.com/resource/en/user_manual/dm00244518-stm32-nucleo144-boards-stmicroelectronics.pdf
pins: 1 PC10, 2 PC11, 3 PC12, 4 PD2, 5 VDD, 6 E5V, 7 ~{{BOOT0}}, 8 GND, 9 PF6, 10 NC hidden, 11 PF7, 12 IOREF, 13 TMS/PA13, 14 ~{{RST}}, 15 TCK/PA14, 16 +3V3, 17 PA15, 18 +5V, 19 GND, 20 GND, 21 LD2/PB7, 22 GND, 23 BT/PC13, 24 VIN, 25 RTC_CRYSTAL/PC14, 26 NC hidden, 27 RTC_CRYSTAL/PC15, 28 ETH_REF_CLK/PA0, 29 PH0, 30 ETH_MDIO/PA1, 31 PH1, 32 PA4, 33 VBAT, 34 PB0, 35 PC2, 36 ETH_MDC/PC1, 37 PC3, 38 PC0, 39 PD4, 40 PD3, 41 PD5, 42 PG2, 43 PD6, 44 PG3, 45 PD7, 46 PE2, 47 PE3, 48 PE4, 49 GND, 50 PE5, 51 PF1, 52 PF2, 53 PF0, 54 PF8, 55 PD1, 56 PF9, 57 PD0, 58 PG1, 59 PG0, 60 GND, 61 PE1, 62 PE6, 63 PG9, 64 PG15, 65 PG12, 66 PG10, 67 NC hidden, 68 PG13/ETH_TXD0, 69 STLINK_RX/PD9, 70 PG11/ETH_TX_EN, 71 GND, 72 GND, 73 PC9, 74 PC8, 75 PB8, 76 PC6, 77 PB9, 78 ETH_RXD1/PC5, 79 AVDD, 80 U5V, 81 GND, 82 STLINK_TX/PD8, 83 PA5, 84 USB_DP/PA12, 85 PA6, 86 USB_DM/PA11, 87 ETH_CRS_DV/PA7, 88 PB12, 89 PB6, 90 PB11, 91 PC7, 92 GND, 93 USB_VBUS/PA9, 94 PB2, 95 USB_SOF/PA8, 96 PB1, 97 PB10, 98 PB15, 99 PB4, 100 LD3/PB14, 101 PB5, 102 ETH_TXD1/PB13, 103 SWO/PB3, 104 AGND, 105 USB_ID/PA10, 106 ETH_RXD0/PC4, 107 PA2, 108 PF5, 109 PA3, 110 PF4, 111 GND, 112 PE8, 113 PD13, 114 PF10, 115 PD12, 116 PE7, 117 PD11, 118 PD14, 119 PE10, 120 PD15, 121 PE12, 122 PF14, 123 PE14, 124 PE9, 125 PE15, 126 GND, 127 PE13, 128 PE11, 129 PF13, 130 PF3, 131 PF12, 132 PF15, 133 PG14, 134 PF11, 135 GND, 136 PE0, 137 PD10, 138 PG8, 139 PG7/USB_GPIO_IN, 140 PG5, 141 PG4, 142 PG6/USB_GPIO_OUT, 143 GND, 144 GND

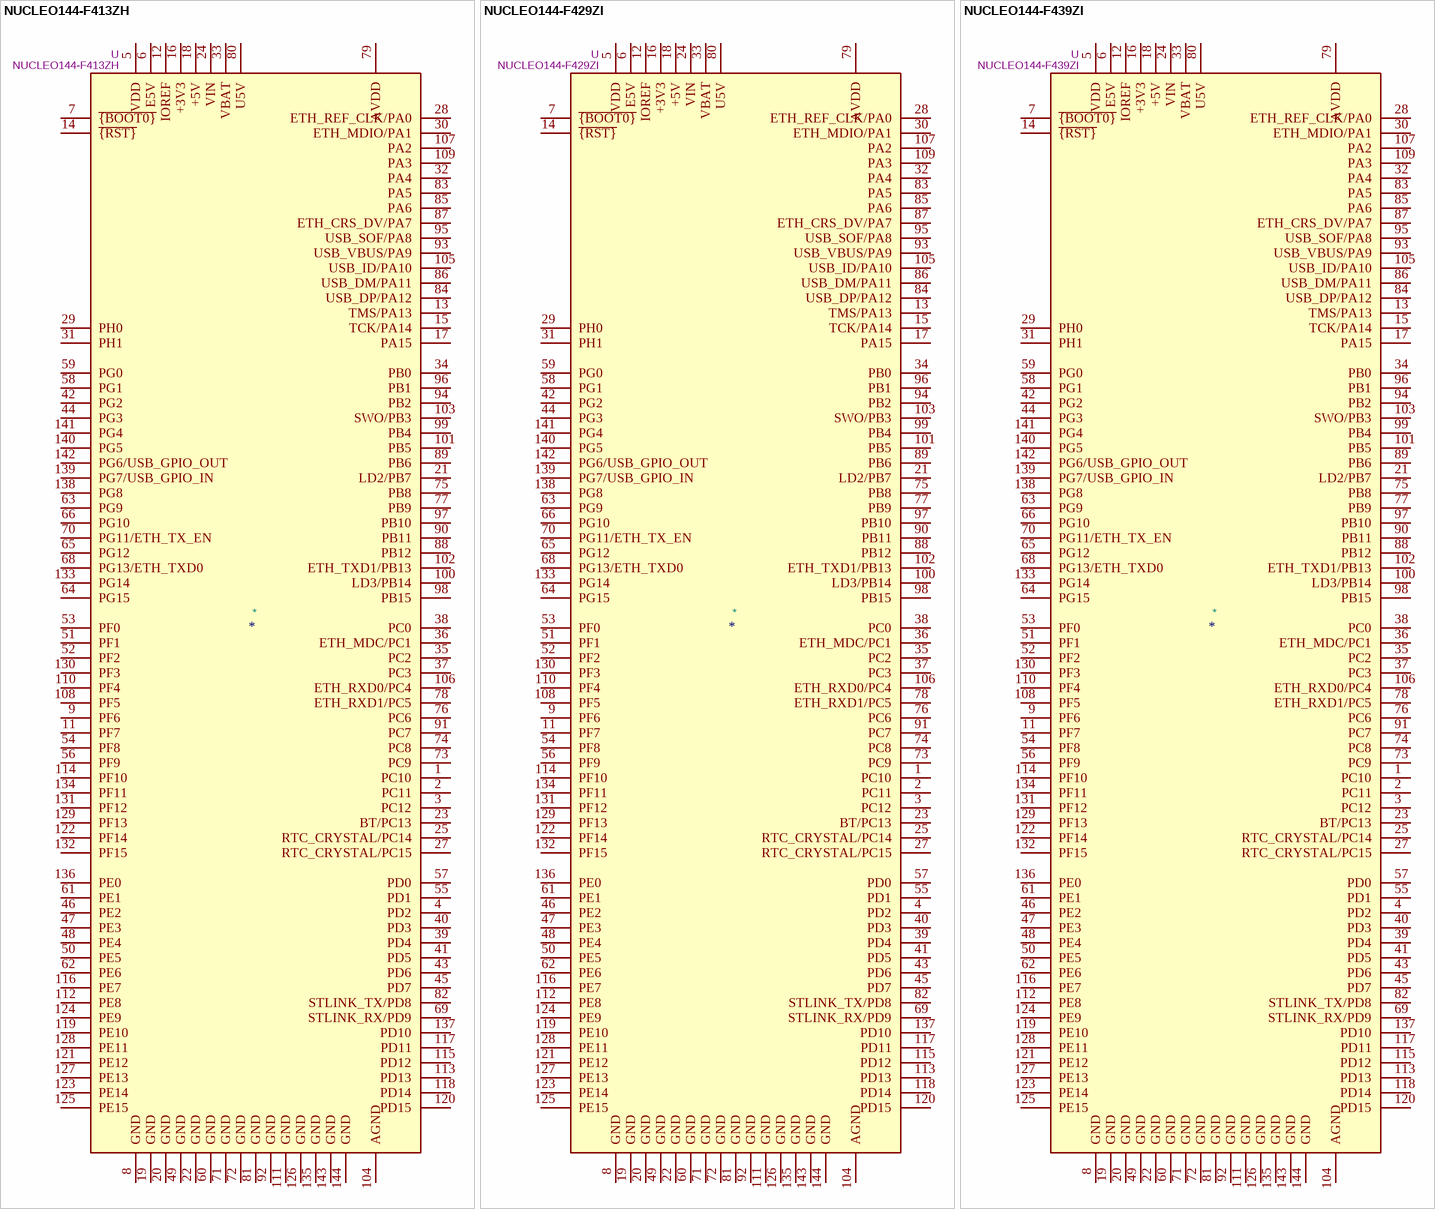
[diagram p3: symbols NUCLEO144-F413ZH to NUCLEO144-F439ZI]

## NUCLEO144-F413ZH
designator *  value NUCLEO144-F413ZH  Reference: U
ki_keywords: STM32 Nucleo ST; ki_description: Nucleo 144 Development Board with STM32F413ZHT6 MCU, 320kB RAM, 1.5Mb FLASH; ki_fp_filters: ST*Morpho*Connector*144*STLink*; Footprint: Module:ST_Morpho_Connector_144_STLink; Datasheet: https://www.st.com/resource/en/user_manual/dm00244518-stm32-nucleo144-boards-stmicroelectronics.pdf
pins: 1 PC10, 2 PC11, 3 PC12, 4 PD2, 5 VDD, 6 E5V, 7 ~{{BOOT0}}, 8 GND, 9 PF6, 10 NC hidden, 11 PF7, 12 IOREF, 13 TMS/PA13, 14 ~{{RST}}, 15 TCK/PA14, 16 +3V3, 17 PA15, 18 +5V, 19 GND, 20 GND, 21 LD2/PB7, 22 GND, 23 BT/PC13, 24 VIN, 25 RTC_CRYSTAL/PC14, 26 NC hidden, 27 RTC_CRYSTAL/PC15, 28 ETH_REF_CLK/PA0, 29 PH0, 30 ETH_MDIO/PA1, 31 PH1, 32 PA4, 33 VBAT, 34 PB0, 35 PC2, 36 ETH_MDC/PC1, 37 PC3, 38 PC0, 39 PD4, 40 PD3, 41 PD5, 42 PG2, 43 PD6, 44 PG3, 45 PD7, 46 PE2, 47 PE3, 48 PE4, 49 GND, 50 PE5, 51 PF1, 52 PF2, 53 PF0, 54 PF8, 55 PD1, 56 PF9, 57 PD0, 58 PG1, 59 PG0, 60 GND, 61 PE1, 62 PE6, 63 PG9, 64 PG15, 65 PG12, 66 PG10, 67 NC hidden, 68 PG13/ETH_TXD0, 69 STLINK_RX/PD9, 70 PG11/ETH_TX_EN, 71 GND, 72 GND, 73 PC9, 74 PC8, 75 PB8, 76 PC6, 77 PB9, 78 ETH_RXD1/PC5, 79 AVDD, 80 U5V, 81 GND, 82 STLINK_TX/PD8, 83 PA5, 84 USB_DP/PA12, 85 PA6, 86 USB_DM/PA11, 87 ETH_CRS_DV/PA7, 88 PB12, 89 PB6, 90 PB11, 91 PC7, 92 GND, 93 USB_VBUS/PA9, 94 PB2, 95 USB_SOF/PA8, 96 PB1, 97 PB10, 98 PB15, 99 PB4, 100 LD3/PB14, 101 PB5, 102 ETH_TXD1/PB13, 103 SWO/PB3, 104 AGND, 105 USB_ID/PA10, 106 ETH_RXD0/PC4, 107 PA2, 108 PF5, 109 PA3, 110 PF4, 111 GND, 112 PE8, 113 PD13, 114 PF10, 115 PD12, 116 PE7, 117 PD11, 118 PD14, 119 PE10, 120 PD15, 121 PE12, 122 PF14, 123 PE14, 124 PE9, 125 PE15, 126 GND, 127 PE13, 128 PE11, 129 PF13, 130 PF3, 131 PF12, 132 PF15, 133 PG14, 134 PF11, 135 GND, 136 PE0, 137 PD10, 138 PG8, 139 PG7/USB_GPIO_IN, 140 PG5, 141 PG4, 142 PG6/USB_GPIO_OUT, 143 GND, 144 GND

## NUCLEO144-F429ZI
designator *  value NUCLEO144-F429ZI  Reference: U
ki_keywords: STM32 Nucleo ST; ki_description: Nucleo 144 Development Board with STM32F429ZIT6 MCU, 256kB RAM, 1Mb FLASH; ki_fp_filters: ST*Morpho*Connector*144*STLink*; Footprint: Module:ST_Morpho_Connector_144_STLink; Datasheet: http://www.st.com/content/ccc/resource/technical/document/data_brief/group0/7b/df/1d/e9/64/55/43/8d/DM00247910/files/DM00247910.pdf/jcr:content/translations/en.DM00247910.pdf
pins: 1 PC10, 2 PC11, 3 PC12, 4 PD2, 5 VDD, 6 E5V, 7 ~{{BOOT0}}, 8 GND, 9 PF6, 10 NC hidden, 11 PF7, 12 IOREF, 13 TMS/PA13, 14 ~{{RST}}, 15 TCK/PA14, 16 +3V3, 17 PA15, 18 +5V, 19 GND, 20 GND, 21 LD2/PB7, 22 GND, 23 BT/PC13, 24 VIN, 25 RTC_CRYSTAL/PC14, 26 NC hidden, 27 RTC_CRYSTAL/PC15, 28 ETH_REF_CLK/PA0, 29 PH0, 30 ETH_MDIO/PA1, 31 PH1, 32 PA4, 33 VBAT, 34 PB0, 35 PC2, 36 ETH_MDC/PC1, 37 PC3, 38 PC0, 39 PD4, 40 PD3, 41 PD5, 42 PG2, 43 PD6, 44 PG3, 45 PD7, 46 PE2, 47 PE3, 48 PE4, 49 GND, 50 PE5, 51 PF1, 52 PF2, 53 PF0, 54 PF8, 55 PD1, 56 PF9, 57 PD0, 58 PG1, 59 PG0, 60 GND, 61 PE1, 62 PE6, 63 PG9, 64 PG15, 65 PG12, 66 PG10, 67 NC hidden, 68 PG13/ETH_TXD0, 69 STLINK_RX/PD9, 70 PG11/ETH_TX_EN, 71 GND, 72 GND, 73 PC9, 74 PC8, 75 PB8, 76 PC6, 77 PB9, 78 ETH_RXD1/PC5, 79 AVDD, 80 U5V, 81 GND, 82 STLINK_TX/PD8, 83 PA5, 84 USB_DP/PA12, 85 PA6, 86 USB_DM/PA11, 87 ETH_CRS_DV/PA7, 88 PB12, 89 PB6, 90 PB11, 91 PC7, 92 GND, 93 USB_VBUS/PA9, 94 PB2, 95 USB_SOF/PA8, 96 PB1, 97 PB10, 98 PB15, 99 PB4, 100 LD3/PB14, 101 PB5, 102 ETH_TXD1/PB13, 103 SWO/PB3, 104 AGND, 105 USB_ID/PA10, 106 ETH_RXD0/PC4, 107 PA2, 108 PF5, 109 PA3, 110 PF4, 111 GND, 112 PE8, 113 PD13, 114 PF10, 115 PD12, 116 PE7, 117 PD11, 118 PD14, 119 PE10, 120 PD15, 121 PE12, 122 PF14, 123 PE14, 124 PE9, 125 PE15, 126 GND, 127 PE13, 128 PE11, 129 PF13, 130 PF3, 131 PF12, 132 PF15, 133 PG14, 134 PF11, 135 GND, 136 PE0, 137 PD10, 138 PG8, 139 PG7/USB_GPIO_IN, 140 PG5, 141 PG4, 142 PG6/USB_GPIO_OUT, 143 GND, 144 GND

## NUCLEO144-F439ZI
designator *  value NUCLEO144-F439ZI  Reference: U
ki_keywords: STM32 Nucleo ST; ki_description: Nucleo 144 Development Board with STM32F439ZIT6 MCU, 256kB RAM, 2Mb FLASH; ki_fp_filters: ST*Morpho*Connector*144*STLink*; Footprint: Module:ST_Morpho_Connector_144_STLink; Datasheet: https://www.st.com/resource/en/user_manual/dm00244518-stm32-nucleo144-boards-stmicroelectronics.pdf
pins: 1 PC10, 2 PC11, 3 PC12, 4 PD2, 5 VDD, 6 E5V, 7 ~{{BOOT0}}, 8 GND, 9 PF6, 10 NC hidden, 11 PF7, 12 IOREF, 13 TMS/PA13, 14 ~{{RST}}, 15 TCK/PA14, 16 +3V3, 17 PA15, 18 +5V, 19 GND, 20 GND, 21 LD2/PB7, 22 GND, 23 BT/PC13, 24 VIN, 25 RTC_CRYSTAL/PC14, 26 NC hidden, 27 RTC_CRYSTAL/PC15, 28 ETH_REF_CLK/PA0, 29 PH0, 30 ETH_MDIO/PA1, 31 PH1, 32 PA4, 33 VBAT, 34 PB0, 35 PC2, 36 ETH_MDC/PC1, 37 PC3, 38 PC0, 39 PD4, 40 PD3, 41 PD5, 42 PG2, 43 PD6, 44 PG3, 45 PD7, 46 PE2, 47 PE3, 48 PE4, 49 GND, 50 PE5, 51 PF1, 52 PF2, 53 PF0, 54 PF8, 55 PD1, 56 PF9, 57 PD0, 58 PG1, 59 PG0, 60 GND, 61 PE1, 62 PE6, 63 PG9, 64 PG15, 65 PG12, 66 PG10, 67 NC hidden, 68 PG13/ETH_TXD0, 69 STLINK_RX/PD9, 70 PG11/ETH_TX_EN, 71 GND, 72 GND, 73 PC9, 74 PC8, 75 PB8, 76 PC6, 77 PB9, 78 ETH_RXD1/PC5, 79 AVDD, 80 U5V, 81 GND, 82 STLINK_TX/PD8, 83 PA5, 84 USB_DP/PA12, 85 PA6, 86 USB_DM/PA11, 87 ETH_CRS_DV/PA7, 88 PB12, 89 PB6, 90 PB11, 91 PC7, 92 GND, 93 USB_VBUS/PA9, 94 PB2, 95 USB_SOF/PA8, 96 PB1, 97 PB10, 98 PB15, 99 PB4, 100 LD3/PB14, 101 PB5, 102 ETH_TXD1/PB13, 103 SWO/PB3, 104 AGND, 105 USB_ID/PA10, 106 ETH_RXD0/PC4, 107 PA2, 108 PF5, 109 PA3, 110 PF4, 111 GND, 112 PE8, 113 PD13, 114 PF10, 115 PD12, 116 PE7, 117 PD11, 118 PD14, 119 PE10, 120 PD15, 121 PE12, 122 PF14, 123 PE14, 124 PE9, 125 PE15, 126 GND, 127 PE13, 128 PE11, 129 PF13, 130 PF3, 131 PF12, 132 PF15, 133 PG14, 134 PF11, 135 GND, 136 PE0, 137 PD10, 138 PG8, 139 PG7/USB_GPIO_IN, 140 PG5, 141 PG4, 142 PG6/USB_GPIO_OUT, 143 GND, 144 GND

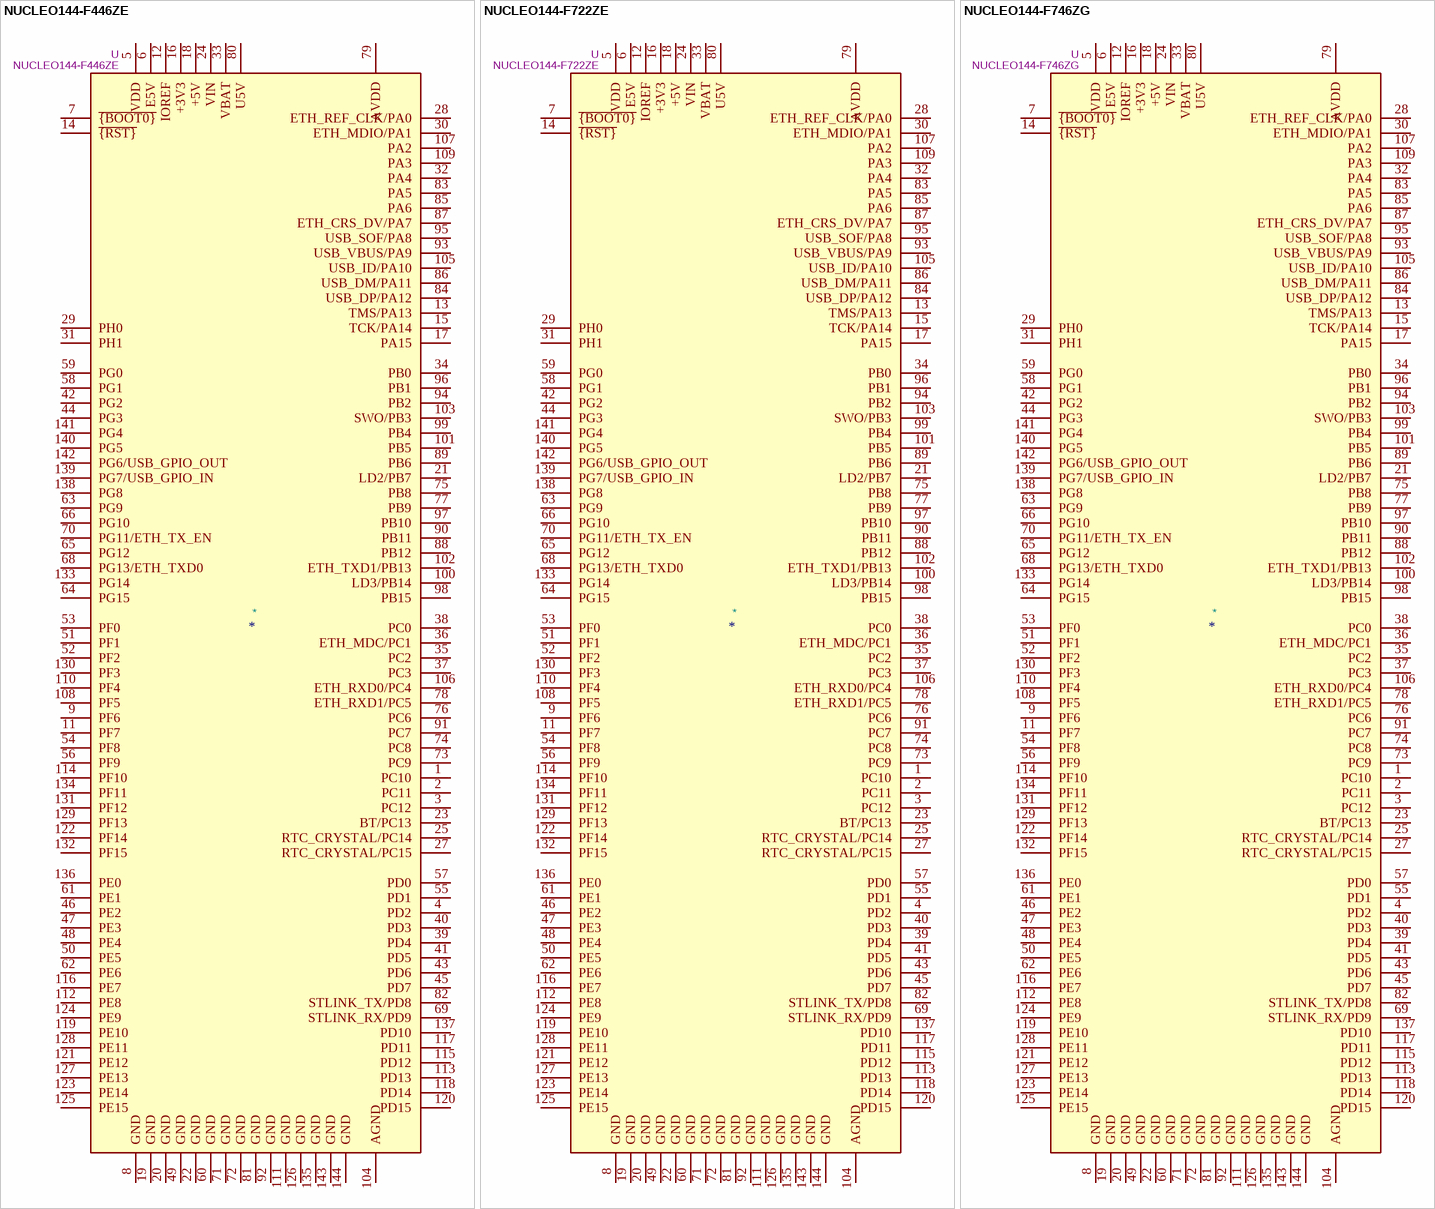
[diagram p4: symbols NUCLEO144-F446ZE to NUCLEO144-F746ZG]

## NUCLEO144-F446ZE
designator *  value NUCLEO144-F446ZE  Reference: U
ki_keywords: STM32 Nucleo ST; ki_description: Nucleo 144 Development Board with STM32F446ZET6 MCU, 128kB RAM, 512Kb FLASH; ki_fp_filters: ST*Morpho*Connector*144*STLink*; Footprint: Module:ST_Morpho_Connector_144_STLink; Datasheet: https://www.st.com/resource/en/user_manual/dm00244518-stm32-nucleo144-boards-stmicroelectronics.pdf
pins: 1 PC10, 2 PC11, 3 PC12, 4 PD2, 5 VDD, 6 E5V, 7 ~{{BOOT0}}, 8 GND, 9 PF6, 10 NC hidden, 11 PF7, 12 IOREF, 13 TMS/PA13, 14 ~{{RST}}, 15 TCK/PA14, 16 +3V3, 17 PA15, 18 +5V, 19 GND, 20 GND, 21 LD2/PB7, 22 GND, 23 BT/PC13, 24 VIN, 25 RTC_CRYSTAL/PC14, 26 NC hidden, 27 RTC_CRYSTAL/PC15, 28 ETH_REF_CLK/PA0, 29 PH0, 30 ETH_MDIO/PA1, 31 PH1, 32 PA4, 33 VBAT, 34 PB0, 35 PC2, 36 ETH_MDC/PC1, 37 PC3, 38 PC0, 39 PD4, 40 PD3, 41 PD5, 42 PG2, 43 PD6, 44 PG3, 45 PD7, 46 PE2, 47 PE3, 48 PE4, 49 GND, 50 PE5, 51 PF1, 52 PF2, 53 PF0, 54 PF8, 55 PD1, 56 PF9, 57 PD0, 58 PG1, 59 PG0, 60 GND, 61 PE1, 62 PE6, 63 PG9, 64 PG15, 65 PG12, 66 PG10, 67 NC hidden, 68 PG13/ETH_TXD0, 69 STLINK_RX/PD9, 70 PG11/ETH_TX_EN, 71 GND, 72 GND, 73 PC9, 74 PC8, 75 PB8, 76 PC6, 77 PB9, 78 ETH_RXD1/PC5, 79 AVDD, 80 U5V, 81 GND, 82 STLINK_TX/PD8, 83 PA5, 84 USB_DP/PA12, 85 PA6, 86 USB_DM/PA11, 87 ETH_CRS_DV/PA7, 88 PB12, 89 PB6, 90 PB11, 91 PC7, 92 GND, 93 USB_VBUS/PA9, 94 PB2, 95 USB_SOF/PA8, 96 PB1, 97 PB10, 98 PB15, 99 PB4, 100 LD3/PB14, 101 PB5, 102 ETH_TXD1/PB13, 103 SWO/PB3, 104 AGND, 105 USB_ID/PA10, 106 ETH_RXD0/PC4, 107 PA2, 108 PF5, 109 PA3, 110 PF4, 111 GND, 112 PE8, 113 PD13, 114 PF10, 115 PD12, 116 PE7, 117 PD11, 118 PD14, 119 PE10, 120 PD15, 121 PE12, 122 PF14, 123 PE14, 124 PE9, 125 PE15, 126 GND, 127 PE13, 128 PE11, 129 PF13, 130 PF3, 131 PF12, 132 PF15, 133 PG14, 134 PF11, 135 GND, 136 PE0, 137 PD10, 138 PG8, 139 PG7/USB_GPIO_IN, 140 PG5, 141 PG4, 142 PG6/USB_GPIO_OUT, 143 GND, 144 GND

## NUCLEO144-F722ZE
designator *  value NUCLEO144-F722ZE  Reference: U
ki_keywords: STM32 Nucleo ST; ki_description: Nucleo 144 Development Board with STM32F722ZET6 MCU, 256kB RAM, 512Kb FLASH; ki_fp_filters: ST*Morpho*Connector*144*STLink*; Footprint: Module:ST_Morpho_Connector_144_STLink; Datasheet: https://www.st.com/resource/en/user_manual/dm00244518-stm32-nucleo144-boards-stmicroelectronics.pdf
pins: 1 PC10, 2 PC11, 3 PC12, 4 PD2, 5 VDD, 6 E5V, 7 ~{{BOOT0}}, 8 GND, 9 PF6, 10 NC hidden, 11 PF7, 12 IOREF, 13 TMS/PA13, 14 ~{{RST}}, 15 TCK/PA14, 16 +3V3, 17 PA15, 18 +5V, 19 GND, 20 GND, 21 LD2/PB7, 22 GND, 23 BT/PC13, 24 VIN, 25 RTC_CRYSTAL/PC14, 26 NC hidden, 27 RTC_CRYSTAL/PC15, 28 ETH_REF_CLK/PA0, 29 PH0, 30 ETH_MDIO/PA1, 31 PH1, 32 PA4, 33 VBAT, 34 PB0, 35 PC2, 36 ETH_MDC/PC1, 37 PC3, 38 PC0, 39 PD4, 40 PD3, 41 PD5, 42 PG2, 43 PD6, 44 PG3, 45 PD7, 46 PE2, 47 PE3, 48 PE4, 49 GND, 50 PE5, 51 PF1, 52 PF2, 53 PF0, 54 PF8, 55 PD1, 56 PF9, 57 PD0, 58 PG1, 59 PG0, 60 GND, 61 PE1, 62 PE6, 63 PG9, 64 PG15, 65 PG12, 66 PG10, 67 NC hidden, 68 PG13/ETH_TXD0, 69 STLINK_RX/PD9, 70 PG11/ETH_TX_EN, 71 GND, 72 GND, 73 PC9, 74 PC8, 75 PB8, 76 PC6, 77 PB9, 78 ETH_RXD1/PC5, 79 AVDD, 80 U5V, 81 GND, 82 STLINK_TX/PD8, 83 PA5, 84 USB_DP/PA12, 85 PA6, 86 USB_DM/PA11, 87 ETH_CRS_DV/PA7, 88 PB12, 89 PB6, 90 PB11, 91 PC7, 92 GND, 93 USB_VBUS/PA9, 94 PB2, 95 USB_SOF/PA8, 96 PB1, 97 PB10, 98 PB15, 99 PB4, 100 LD3/PB14, 101 PB5, 102 ETH_TXD1/PB13, 103 SWO/PB3, 104 AGND, 105 USB_ID/PA10, 106 ETH_RXD0/PC4, 107 PA2, 108 PF5, 109 PA3, 110 PF4, 111 GND, 112 PE8, 113 PD13, 114 PF10, 115 PD12, 116 PE7, 117 PD11, 118 PD14, 119 PE10, 120 PD15, 121 PE12, 122 PF14, 123 PE14, 124 PE9, 125 PE15, 126 GND, 127 PE13, 128 PE11, 129 PF13, 130 PF3, 131 PF12, 132 PF15, 133 PG14, 134 PF11, 135 GND, 136 PE0, 137 PD10, 138 PG8, 139 PG7/USB_GPIO_IN, 140 PG5, 141 PG4, 142 PG6/USB_GPIO_OUT, 143 GND, 144 GND

## NUCLEO144-F746ZG
designator *  value NUCLEO144-F746ZG  Reference: U
ki_keywords: STM32 Nucleo ST; ki_description: Nucleo 144 Development Board with STM32F746ZG MCU, 256kB RAM, 1Mb FLASH; ki_fp_filters: ST*Morpho*Connector*144*STLink*; Footprint: Module:ST_Morpho_Connector_144_STLink; Datasheet: https://www.st.com/resource/en/user_manual/dm00244518-stm32-nucleo144-boards-stmicroelectronics.pdf
pins: 1 PC10, 2 PC11, 3 PC12, 4 PD2, 5 VDD, 6 E5V, 7 ~{{BOOT0}}, 8 GND, 9 PF6, 10 NC hidden, 11 PF7, 12 IOREF, 13 TMS/PA13, 14 ~{{RST}}, 15 TCK/PA14, 16 +3V3, 17 PA15, 18 +5V, 19 GND, 20 GND, 21 LD2/PB7, 22 GND, 23 BT/PC13, 24 VIN, 25 RTC_CRYSTAL/PC14, 26 NC hidden, 27 RTC_CRYSTAL/PC15, 28 ETH_REF_CLK/PA0, 29 PH0, 30 ETH_MDIO/PA1, 31 PH1, 32 PA4, 33 VBAT, 34 PB0, 35 PC2, 36 ETH_MDC/PC1, 37 PC3, 38 PC0, 39 PD4, 40 PD3, 41 PD5, 42 PG2, 43 PD6, 44 PG3, 45 PD7, 46 PE2, 47 PE3, 48 PE4, 49 GND, 50 PE5, 51 PF1, 52 PF2, 53 PF0, 54 PF8, 55 PD1, 56 PF9, 57 PD0, 58 PG1, 59 PG0, 60 GND, 61 PE1, 62 PE6, 63 PG9, 64 PG15, 65 PG12, 66 PG10, 67 NC hidden, 68 PG13/ETH_TXD0, 69 STLINK_RX/PD9, 70 PG11/ETH_TX_EN, 71 GND, 72 GND, 73 PC9, 74 PC8, 75 PB8, 76 PC6, 77 PB9, 78 ETH_RXD1/PC5, 79 AVDD, 80 U5V, 81 GND, 82 STLINK_TX/PD8, 83 PA5, 84 USB_DP/PA12, 85 PA6, 86 USB_DM/PA11, 87 ETH_CRS_DV/PA7, 88 PB12, 89 PB6, 90 PB11, 91 PC7, 92 GND, 93 USB_VBUS/PA9, 94 PB2, 95 USB_SOF/PA8, 96 PB1, 97 PB10, 98 PB15, 99 PB4, 100 LD3/PB14, 101 PB5, 102 ETH_TXD1/PB13, 103 SWO/PB3, 104 AGND, 105 USB_ID/PA10, 106 ETH_RXD0/PC4, 107 PA2, 108 PF5, 109 PA3, 110 PF4, 111 GND, 112 PE8, 113 PD13, 114 PF10, 115 PD12, 116 PE7, 117 PD11, 118 PD14, 119 PE10, 120 PD15, 121 PE12, 122 PF14, 123 PE14, 124 PE9, 125 PE15, 126 GND, 127 PE13, 128 PE11, 129 PF13, 130 PF3, 131 PF12, 132 PF15, 133 PG14, 134 PF11, 135 GND, 136 PE0, 137 PD10, 138 PG8, 139 PG7/USB_GPIO_IN, 140 PG5, 141 PG4, 142 PG6/USB_GPIO_OUT, 143 GND, 144 GND

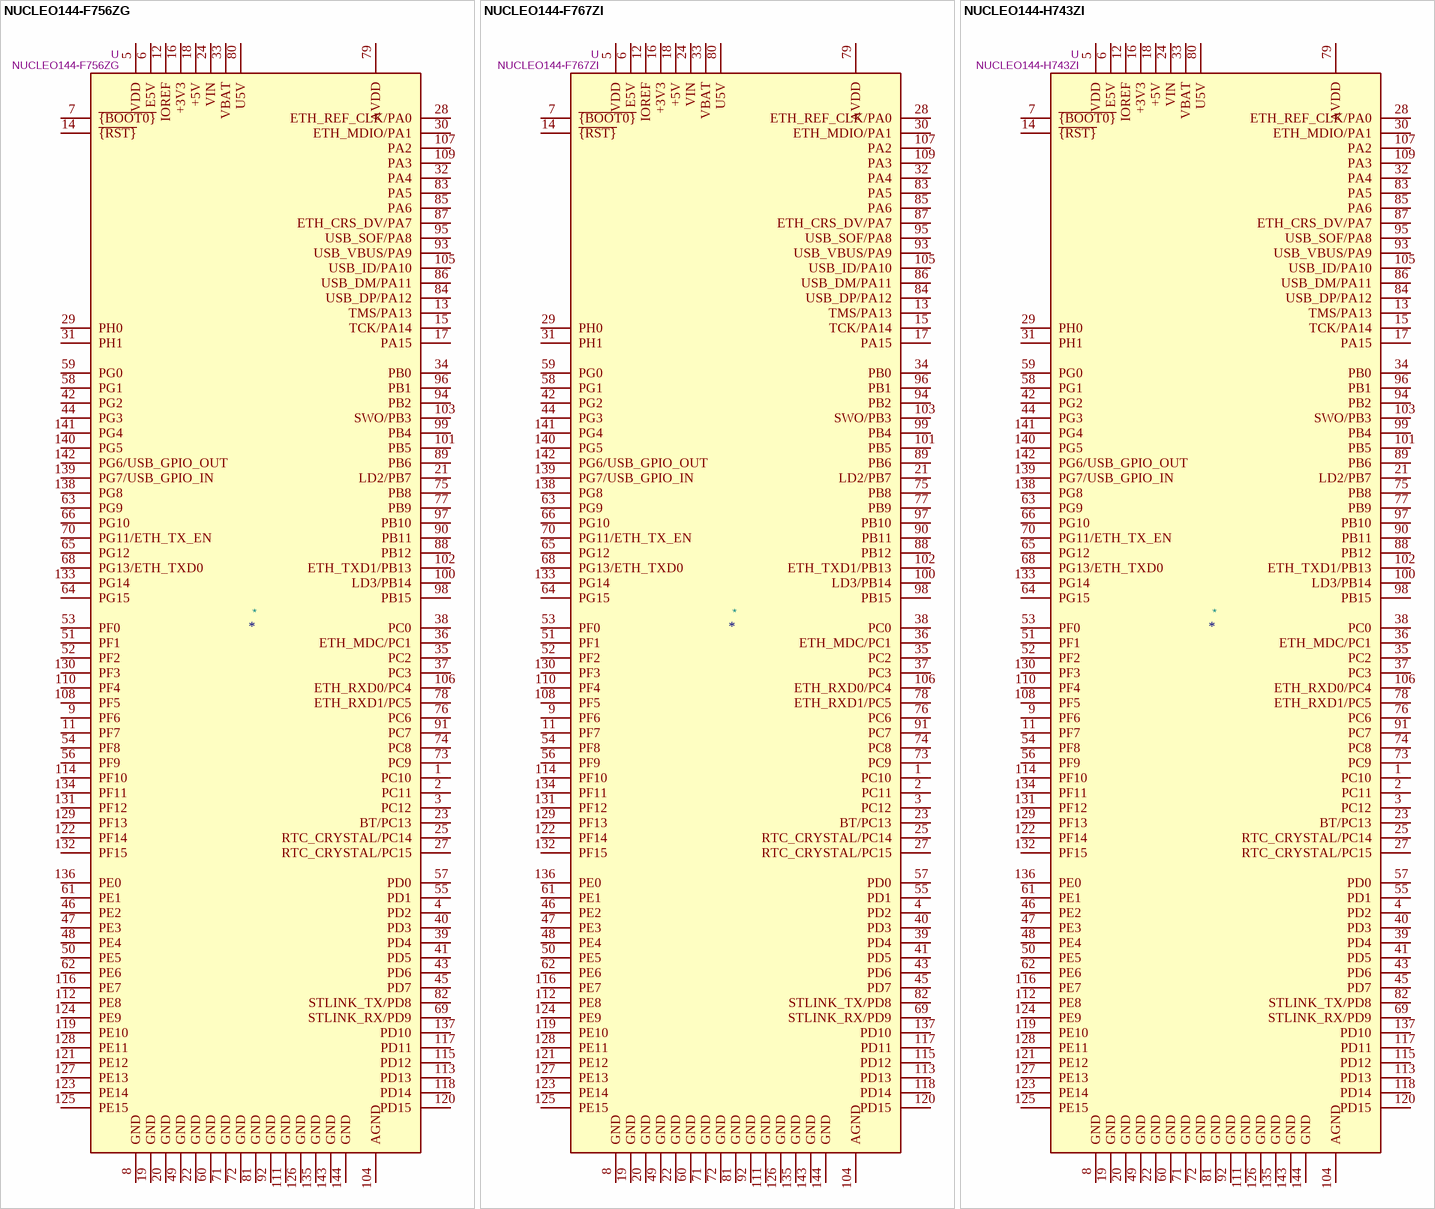
[diagram p5: symbols NUCLEO144-F756ZG to NUCLEO144-H743ZI]

## NUCLEO144-F756ZG
designator *  value NUCLEO144-F756ZG  Reference: U
ki_keywords: STM32 Nucleo ST; ki_description: Nucleo 144 Development Board with STM32F756ZGT6 MCU, 320kB RAM, 1Mb FLASH; ki_fp_filters: ST*Morpho*Connector*144*STLink*; Footprint: Module:ST_Morpho_Connector_144_STLink; Datasheet: https://www.st.com/resource/en/user_manual/dm00244518-stm32-nucleo144-boards-stmicroelectronics.pdf
pins: 1 PC10, 2 PC11, 3 PC12, 4 PD2, 5 VDD, 6 E5V, 7 ~{{BOOT0}}, 8 GND, 9 PF6, 10 NC hidden, 11 PF7, 12 IOREF, 13 TMS/PA13, 14 ~{{RST}}, 15 TCK/PA14, 16 +3V3, 17 PA15, 18 +5V, 19 GND, 20 GND, 21 LD2/PB7, 22 GND, 23 BT/PC13, 24 VIN, 25 RTC_CRYSTAL/PC14, 26 NC hidden, 27 RTC_CRYSTAL/PC15, 28 ETH_REF_CLK/PA0, 29 PH0, 30 ETH_MDIO/PA1, 31 PH1, 32 PA4, 33 VBAT, 34 PB0, 35 PC2, 36 ETH_MDC/PC1, 37 PC3, 38 PC0, 39 PD4, 40 PD3, 41 PD5, 42 PG2, 43 PD6, 44 PG3, 45 PD7, 46 PE2, 47 PE3, 48 PE4, 49 GND, 50 PE5, 51 PF1, 52 PF2, 53 PF0, 54 PF8, 55 PD1, 56 PF9, 57 PD0, 58 PG1, 59 PG0, 60 GND, 61 PE1, 62 PE6, 63 PG9, 64 PG15, 65 PG12, 66 PG10, 67 NC hidden, 68 PG13/ETH_TXD0, 69 STLINK_RX/PD9, 70 PG11/ETH_TX_EN, 71 GND, 72 GND, 73 PC9, 74 PC8, 75 PB8, 76 PC6, 77 PB9, 78 ETH_RXD1/PC5, 79 AVDD, 80 U5V, 81 GND, 82 STLINK_TX/PD8, 83 PA5, 84 USB_DP/PA12, 85 PA6, 86 USB_DM/PA11, 87 ETH_CRS_DV/PA7, 88 PB12, 89 PB6, 90 PB11, 91 PC7, 92 GND, 93 USB_VBUS/PA9, 94 PB2, 95 USB_SOF/PA8, 96 PB1, 97 PB10, 98 PB15, 99 PB4, 100 LD3/PB14, 101 PB5, 102 ETH_TXD1/PB13, 103 SWO/PB3, 104 AGND, 105 USB_ID/PA10, 106 ETH_RXD0/PC4, 107 PA2, 108 PF5, 109 PA3, 110 PF4, 111 GND, 112 PE8, 113 PD13, 114 PF10, 115 PD12, 116 PE7, 117 PD11, 118 PD14, 119 PE10, 120 PD15, 121 PE12, 122 PF14, 123 PE14, 124 PE9, 125 PE15, 126 GND, 127 PE13, 128 PE11, 129 PF13, 130 PF3, 131 PF12, 132 PF15, 133 PG14, 134 PF11, 135 GND, 136 PE0, 137 PD10, 138 PG8, 139 PG7/USB_GPIO_IN, 140 PG5, 141 PG4, 142 PG6/USB_GPIO_OUT, 143 GND, 144 GND

## NUCLEO144-F767ZI
designator *  value NUCLEO144-F767ZI  Reference: U
ki_keywords: STM32 Nucleo ST; ki_description: Nucleo 144 Development Board with STM32F767ZIT6 MCU, 512kB RAM, 2Mb FLASH; ki_fp_filters: ST*Morpho*Connector*144*STLink*; Footprint: Module:ST_Morpho_Connector_144_STLink; Datasheet: https://www.st.com/resource/en/user_manual/dm00244518-stm32-nucleo144-boards-stmicroelectronics.pdf
pins: 1 PC10, 2 PC11, 3 PC12, 4 PD2, 5 VDD, 6 E5V, 7 ~{{BOOT0}}, 8 GND, 9 PF6, 10 NC hidden, 11 PF7, 12 IOREF, 13 TMS/PA13, 14 ~{{RST}}, 15 TCK/PA14, 16 +3V3, 17 PA15, 18 +5V, 19 GND, 20 GND, 21 LD2/PB7, 22 GND, 23 BT/PC13, 24 VIN, 25 RTC_CRYSTAL/PC14, 26 NC hidden, 27 RTC_CRYSTAL/PC15, 28 ETH_REF_CLK/PA0, 29 PH0, 30 ETH_MDIO/PA1, 31 PH1, 32 PA4, 33 VBAT, 34 PB0, 35 PC2, 36 ETH_MDC/PC1, 37 PC3, 38 PC0, 39 PD4, 40 PD3, 41 PD5, 42 PG2, 43 PD6, 44 PG3, 45 PD7, 46 PE2, 47 PE3, 48 PE4, 49 GND, 50 PE5, 51 PF1, 52 PF2, 53 PF0, 54 PF8, 55 PD1, 56 PF9, 57 PD0, 58 PG1, 59 PG0, 60 GND, 61 PE1, 62 PE6, 63 PG9, 64 PG15, 65 PG12, 66 PG10, 67 NC hidden, 68 PG13/ETH_TXD0, 69 STLINK_RX/PD9, 70 PG11/ETH_TX_EN, 71 GND, 72 GND, 73 PC9, 74 PC8, 75 PB8, 76 PC6, 77 PB9, 78 ETH_RXD1/PC5, 79 AVDD, 80 U5V, 81 GND, 82 STLINK_TX/PD8, 83 PA5, 84 USB_DP/PA12, 85 PA6, 86 USB_DM/PA11, 87 ETH_CRS_DV/PA7, 88 PB12, 89 PB6, 90 PB11, 91 PC7, 92 GND, 93 USB_VBUS/PA9, 94 PB2, 95 USB_SOF/PA8, 96 PB1, 97 PB10, 98 PB15, 99 PB4, 100 LD3/PB14, 101 PB5, 102 ETH_TXD1/PB13, 103 SWO/PB3, 104 AGND, 105 USB_ID/PA10, 106 ETH_RXD0/PC4, 107 PA2, 108 PF5, 109 PA3, 110 PF4, 111 GND, 112 PE8, 113 PD13, 114 PF10, 115 PD12, 116 PE7, 117 PD11, 118 PD14, 119 PE10, 120 PD15, 121 PE12, 122 PF14, 123 PE14, 124 PE9, 125 PE15, 126 GND, 127 PE13, 128 PE11, 129 PF13, 130 PF3, 131 PF12, 132 PF15, 133 PG14, 134 PF11, 135 GND, 136 PE0, 137 PD10, 138 PG8, 139 PG7/USB_GPIO_IN, 140 PG5, 141 PG4, 142 PG6/USB_GPIO_OUT, 143 GND, 144 GND

## NUCLEO144-H743ZI
designator *  value NUCLEO144-H743ZI  Reference: U
ki_keywords: STM32 Nucleo ST; ki_description: Nucleo 144 Development Board with STM32H743ZIT6 MCU, 1024kB RAM, 2Mb FLASH; ki_fp_filters: ST*Morpho*Connector*144*STLink*; Footprint: Module:ST_Morpho_Connector_144_STLink; Datasheet: https://www.st.com/resource/en/user_manual/dm00244518-stm32-nucleo144-boards-stmicroelectronics.pdf
pins: 1 PC10, 2 PC11, 3 PC12, 4 PD2, 5 VDD, 6 E5V, 7 ~{{BOOT0}}, 8 GND, 9 PF6, 10 NC hidden, 11 PF7, 12 IOREF, 13 TMS/PA13, 14 ~{{RST}}, 15 TCK/PA14, 16 +3V3, 17 PA15, 18 +5V, 19 GND, 20 GND, 21 LD2/PB7, 22 GND, 23 BT/PC13, 24 VIN, 25 RTC_CRYSTAL/PC14, 26 NC hidden, 27 RTC_CRYSTAL/PC15, 28 ETH_REF_CLK/PA0, 29 PH0, 30 ETH_MDIO/PA1, 31 PH1, 32 PA4, 33 VBAT, 34 PB0, 35 PC2, 36 ETH_MDC/PC1, 37 PC3, 38 PC0, 39 PD4, 40 PD3, 41 PD5, 42 PG2, 43 PD6, 44 PG3, 45 PD7, 46 PE2, 47 PE3, 48 PE4, 49 GND, 50 PE5, 51 PF1, 52 PF2, 53 PF0, 54 PF8, 55 PD1, 56 PF9, 57 PD0, 58 PG1, 59 PG0, 60 GND, 61 PE1, 62 PE6, 63 PG9, 64 PG15, 65 PG12, 66 PG10, 67 NC hidden, 68 PG13/ETH_TXD0, 69 STLINK_RX/PD9, 70 PG11/ETH_TX_EN, 71 GND, 72 GND, 73 PC9, 74 PC8, 75 PB8, 76 PC6, 77 PB9, 78 ETH_RXD1/PC5, 79 AVDD, 80 U5V, 81 GND, 82 STLINK_TX/PD8, 83 PA5, 84 USB_DP/PA12, 85 PA6, 86 USB_DM/PA11, 87 ETH_CRS_DV/PA7, 88 PB12, 89 PB6, 90 PB11, 91 PC7, 92 GND, 93 USB_VBUS/PA9, 94 PB2, 95 USB_SOF/PA8, 96 PB1, 97 PB10, 98 PB15, 99 PB4, 100 LD3/PB14, 101 PB5, 102 ETH_TXD1/PB13, 103 SWO/PB3, 104 AGND, 105 USB_ID/PA10, 106 ETH_RXD0/PC4, 107 PA2, 108 PF5, 109 PA3, 110 PF4, 111 GND, 112 PE8, 113 PD13, 114 PF10, 115 PD12, 116 PE7, 117 PD11, 118 PD14, 119 PE10, 120 PD15, 121 PE12, 122 PF14, 123 PE14, 124 PE9, 125 PE15, 126 GND, 127 PE13, 128 PE11, 129 PF13, 130 PF3, 131 PF12, 132 PF15, 133 PG14, 134 PF11, 135 GND, 136 PE0, 137 PD10, 138 PG8, 139 PG7/USB_GPIO_IN, 140 PG5, 141 PG4, 142 PG6/USB_GPIO_OUT, 143 GND, 144 GND

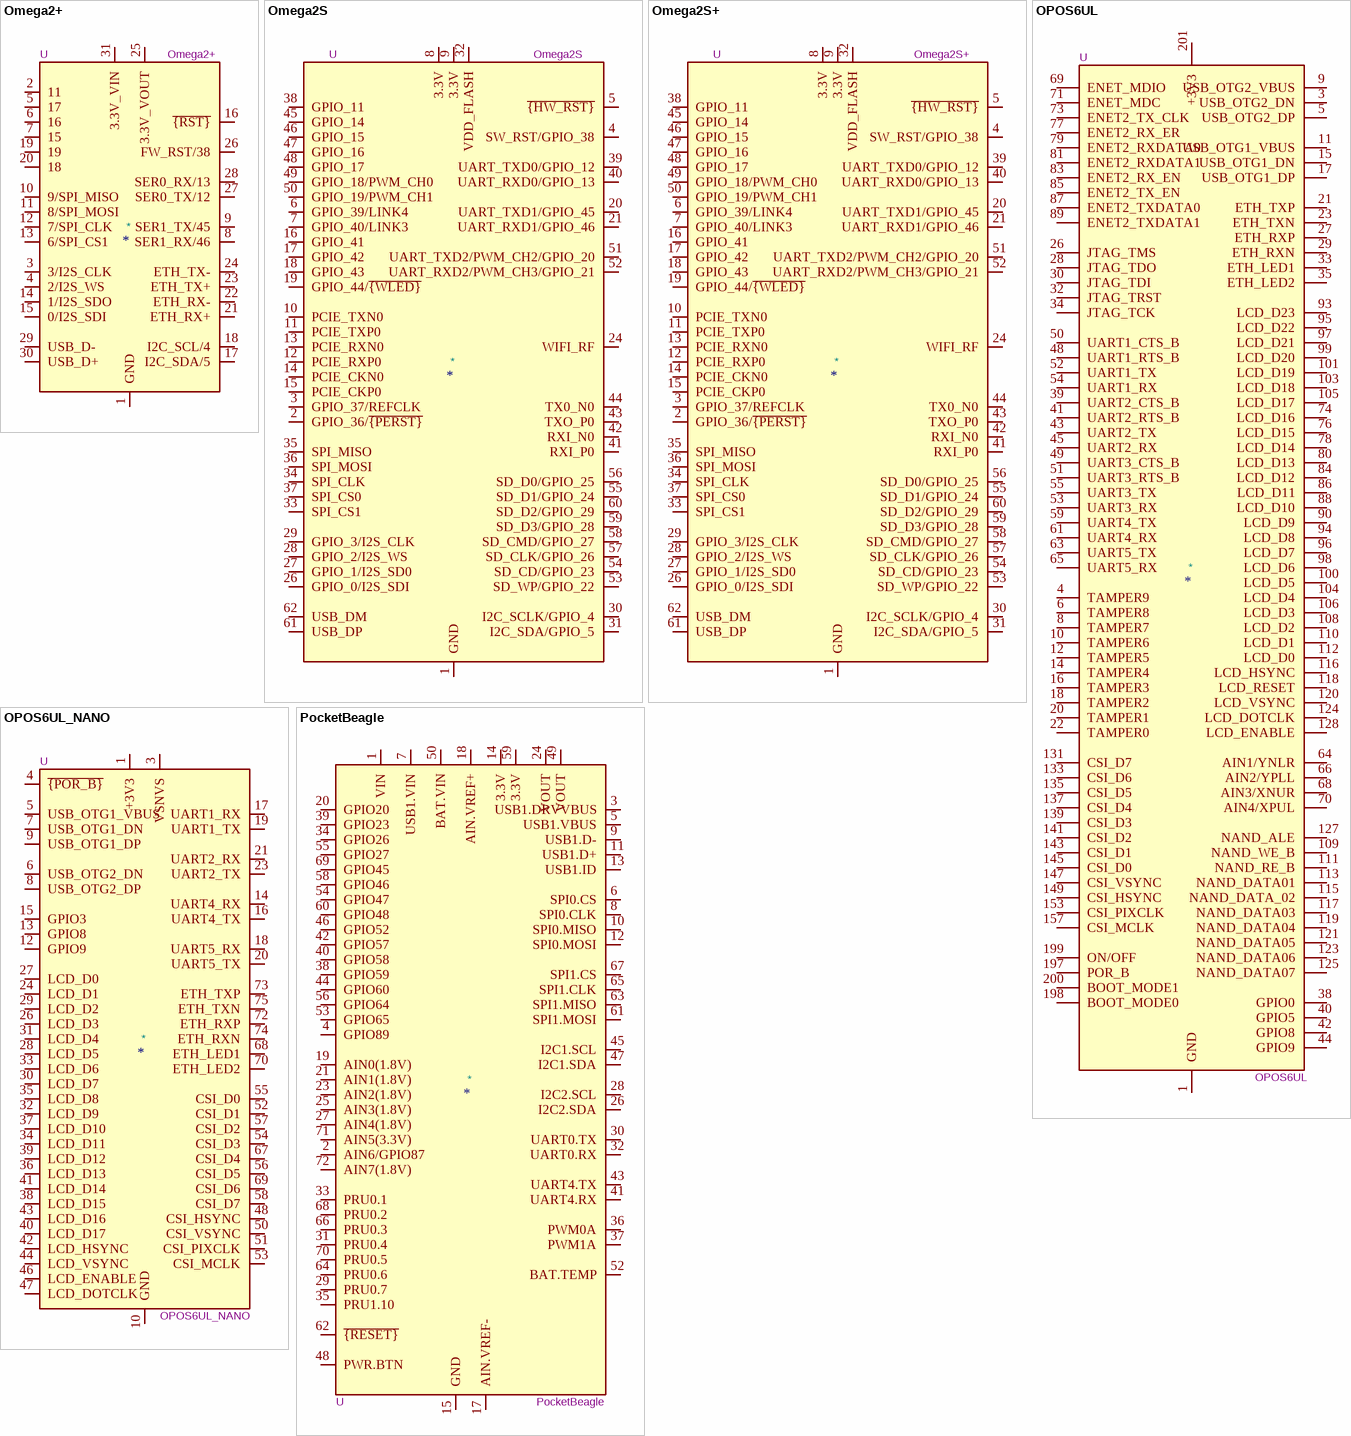
[diagram p6: symbols Omega2+ to PocketBeagle]

## Omega2+
designator *  value Omega2+  Reference: U
ki_keywords: onion omega module; ki_description: Iot Computer Module by Onion; ki_fp_filters: Onion*Omega2+*; Footprint: Module:Onion_Omega2+; Datasheet: https://docs.onion.io/omega2-docs/omega2p.html
pins: 1 GND, 2 11, 3 3/I2S_CLK, 4 2/I2S_WS, 5 17, 6 16, 7 15, 8 SER1_RX/46, 9 SER1_TX/45, 10 9/SPI_MISO, 11 8/SPI_MOSI, 12 7/SPI_CLK, 13 6/SPI_CS1, 14 1/I2S_SDO, 15 0/I2S_SDI, 16 ~{{RST}}, 17 I2C_SDA/5, 18 I2C_SCL/4, 19, 20 18, 21 ETH_RX+, 22 ETH_RX-, 23 ETH_TX+, 24 ETH_TX-, 25 3.3V_VOUT, 26 FW_RST/38, 27 SER0_TX/12, 28 SER0_RX/13, 29 USB_D-, 30 USB_D+, 31 3.3V_VIN, 32 GND hidden

## Omega2S
designator *  value Omega2S  Reference: U
ki_keywords: onion omega module; ki_description: Iot Computer Module by Onion, 64MB RAM, 16MB FLASH; ki_fp_filters: Onion*Omega2S*; Footprint: Module:Onion_Omega2S; Datasheet: https://github.com/OnionIoT/Omega2/raw/master/Documents/Omega2S%20Datasheet.pdf
pins: 1 GND, 2 GPIO_36/~{{PERST}}, 3 GPIO_37/REFCLK, 4 SW_RST/GPIO_38, 5 ~{{HW_RST}}, 6 GPIO_39/LINK4, 7 GPIO_40/LINK3, 8 3.3V, 9 3.3V, 10 PCIE_TXN0, 11 PCIE_TXP0, 12 PCIE_RXP0, 13 PCIE_RXN0, 14 PCIE_CKN0, 15 PCIE_CKP0, 16 GPIO_41, 17 GPIO_42, 18 GPIO_43, 19 GPIO_44/~{{WLED}}, 20 UART_TXD1/GPIO_45, 21 UART_RXD1/GPIO_46, 22 GND hidden, 23 GND hidden, 24 WIFI_RF, 25 GND hidden, 26 GPIO_0/I2S_SDI, 27 GPIO_1/I2S_SD0, 28 GPIO_2/I2S_WS, 29 GPIO_3/I2S_CLK, 30 I2C_SCLK/GPIO_4, 31 I2C_SDA/GPIO_5, 32 VDD_FLASH, 33 SPI_CS1, 34 SPI_CLK, 35 SPI_MISO, 36 SPI_MOSI, 37 SPI_CS0, 38 GPIO_11, 39 UART_TXD0/GPIO_12, 40 UART_RXD0/GPIO_13, 41 RXI_P0, 42 RXI_N0, 43 TXO_P0, 44 TX0_N0, 45 GPIO_14, 46 GPIO_15, 47 GPIO_16, 48 GPIO_17, 49 GPIO_18/PWM_CH0, 50 GPIO_19/PWM_CH1, 51 UART_TXD2/PWM_CH2/GPIO_20, 52 UART_RXD2/PWM_CH3/GPIO_21, 53 SD_WP/GPIO_22, 54 SD_CD/GPIO_23, 55 SD_D1/GPIO_24, 56 SD_D0/GPIO_25, 57 SD_CLK/GPIO_26, 58 SD_CMD/GPIO_27, 59 SD_D3/GPIO_28, 60 SD_D2/GPIO_29, 61 USB_DP, 62 USB_DM, 63 GND hidden, 64 GND hidden

## Omega2S+
designator *  value Omega2S+  Reference: U
ki_keywords: onion omega module; ki_description: Iot Computer Module by Onion, 128MB RAM, 32MB FLASH; ki_fp_filters: Onion*Omega2S*; Footprint: Module:Onion_Omega2S; Datasheet: https://github.com/OnionIoT/Omega2/raw/master/Documents/Omega2S%20Datasheet.pdf
pins: 1 GND, 2 GPIO_36/~{{PERST}}, 3 GPIO_37/REFCLK, 4 SW_RST/GPIO_38, 5 ~{{HW_RST}}, 6 GPIO_39/LINK4, 7 GPIO_40/LINK3, 8 3.3V, 9 3.3V, 10 PCIE_TXN0, 11 PCIE_TXP0, 12 PCIE_RXP0, 13 PCIE_RXN0, 14 PCIE_CKN0, 15 PCIE_CKP0, 16 GPIO_41, 17 GPIO_42, 18 GPIO_43, 19 GPIO_44/~{{WLED}}, 20 UART_TXD1/GPIO_45, 21 UART_RXD1/GPIO_46, 22 GND hidden, 23 GND hidden, 24 WIFI_RF, 25 GND hidden, 26 GPIO_0/I2S_SDI, 27 GPIO_1/I2S_SD0, 28 GPIO_2/I2S_WS, 29 GPIO_3/I2S_CLK, 30 I2C_SCLK/GPIO_4, 31 I2C_SDA/GPIO_5, 32 VDD_FLASH, 33 SPI_CS1, 34 SPI_CLK, 35 SPI_MISO, 36 SPI_MOSI, 37 SPI_CS0, 38 GPIO_11, 39 UART_TXD0/GPIO_12, 40 UART_RXD0/GPIO_13, 41 RXI_P0, 42 RXI_N0, 43 TXO_P0, 44 TX0_N0, 45 GPIO_14, 46 GPIO_15, 47 GPIO_16, 48 GPIO_17, 49 GPIO_18/PWM_CH0, 50 GPIO_19/PWM_CH1, 51 UART_TXD2/PWM_CH2/GPIO_20, 52 UART_RXD2/PWM_CH3/GPIO_21, 53 SD_WP/GPIO_22, 54 SD_CD/GPIO_23, 55 SD_D1/GPIO_24, 56 SD_D0/GPIO_25, 57 SD_CLK/GPIO_26, 58 SD_CMD/GPIO_27, 59 SD_D3/GPIO_28, 60 SD_D2/GPIO_29, 61 USB_DP, 62 USB_DM, 63 GND hidden, 64 GND hidden

## OPOS6UL
designator *  value OPOS6UL  Reference: U
ki_keywords: armadeus systems opos6ul sbc som compute module; ki_description: Armadeus Systems i.MX6UL based single board computer, SODIMM; ki_fp_filters: *SODIMM*; Datasheet: http://www.opossom.com/_downloads/opos6ul/documentation/datasheet_opos6ul.pdf
pins: 1 GND, 2 GND hidden, 3 USB_OTG2_DN, 4 TAMPER9, 5 USB_OTG2_DP, 6 TAMPER8, 7 GND hidden, 8 TAMPER7, 9 USB_OTG2_VBUS, 10 TAMPER6, 11 USB_OTG1_VBUS, 12 TAMPER5, 13 GND hidden, 14 TAMPER4, 15 USB_OTG1_DN, 16 TAMPER3, 17 USB_OTG1_DP, 18 TAMPER2, 19 GND hidden, 20 TAMPER1, 21 ETH_TXP, 22 TAMPER0, 23 ETH_TXN, 24 GND hidden, 25 GND hidden, 26 JTAG_TMS, 27 ETH_RXP, 28 JTAG_TDO, 29 ETH_RXN, 30 JTAG_TDI, 31 GND hidden, 32 JTAG_TRST, 33 ETH_LED1, 34 JTAG_TCK, 35 ETH_LED2, 36 GND hidden, 37 GND hidden, 38 GPIO0, 39 UART2_CTS_B, 40 GPIO5, 41 UART2_RTS_B, 42 GPIO8, 43 UART2_TX, 44 GPIO9, 45 UART2_RX, 46 GND hidden, 47 GND hidden, 48 UART1_RTS_B, 49 UART3_CTS_B, 50 UART1_CTS_B, 51 UART3_RTS_B, 52 UART1_TX, 53 UART3_RX, 54 UART1_RX, 55 UART3_TX, 56 GND hidden, 57 GND hidden, 58 NC hidden, 59 UART4_TX, 60 NC hidden, 61 UART4_RX, 62 GND hidden, 63 UART5_TX, 64 AIN1/YNLR, 65 UART5_RX, 66 AIN2/YPLL, 67 GND hidden, 68 AIN3/XNUR, 69 ENET_MDIO, 70 AIN4/XPUL, 71 ENET_MDC, 72 GND hidden, 73 ENET2_TX_CLK, 74 LCD_D16, 75 GND hidden, 76 LCD_D15, 77 ENET2_RX_ER, 78 LCD_D14, 79 ENET2_RXDATA0, 80 LCD_D13, 81 ENET2_RXDATA1, 82 GND hidden, 83 ENET2_RX_EN, 84 LCD_D12, 85 ENET2_TX_EN, 86 LCD_D11, 87 ENET2_TXDATA0, 88 LCD_D10, 89 ENET2_TXDATA1, 90 LCD_D9, 91 GND hidden, 92 GND hidden, 93 LCD_D23, 94 LCD_D8, 95 LCD_D22, 96 LCD_D7, 97 LCD_D21, 98 LCD_D6, 99 LCD_D20, 100 LCD_D5, 101 LCD_D19, 102 GND hidden, 103 LCD_D18, 104 LCD_D4, 105 LCD_D17, 106 LCD_D3, 107 GND hidden, 108 LCD_D2, 109 NAND_WE_B, 110 LCD_D1, 111 NAND_RE_B, 112 LCD_D0, 113 NAND_DATA01, 114 GND hidden, 115 NAND_DATA_02, 116 LCD_HSYNC, 117 NAND_DATA03, 118 LCD_RESET, 119 NAND_DATA04, 120 LCD_VSYNC, 121 NAND_DATA05, 122 GND hidden, 123 NAND_DATA06, 124 LCD_DOTCLK, 125 NAND_DATA07, 126 GND hidden, 127 NAND_ALE, 128 LCD_ENABLE, 129 GND hidden, 130 NC hidden, 131 CSI_D7, 132 NC hidden, 133 CSI_D6, 134 NC hidden, 135 CSI_D5, 136 NC hidden, 137 CSI_D4, 138 NC hidden, 139 CSI_D3, 140 NC hidden, 141 CSI_D2, 142 NC hidden, 143 CSI_D1, 144 NC hidden, 145 CSI_D0, 146 NC hidden, 147 CSI_VSYNC, 148 NC hidden, 149 CSI_HSYNC, 150 NC hidden, 151 GND hidden, 152 NC hidden, 153 CSI_PIXCLK, 154 NC hidden, 155 GND hidden, 156 NC hidden, 157 CSI_MCLK, 158 NC hidden, 159 GND hidden, 160 NC hidden, 161 NC hidden, 162 NC hidden, 163 NC hidden, 164 NC hidden, 165 NC hidden, 166 NC hidden, 167 NC hidden, 168 NC hidden, 169 NC hidden, 170 NC hidden, 171 NC hidden, 172 NC hidden, 173 NC hidden, 174 NC hidden, 175 NC hidden, 176 NC hidden, 177 NC hidden, 178 NC hidden, 179 NC hidden, 180 NC hidden, 181 NC hidden, 182 NC hidden, 183 NC hidden, 184 NC hidden, 185 NC hidden, 186 NC hidden, 187 NC hidden, 188 NC hidden, 189 NC hidden, 190 NC hidden, 191 NC hidden, 192 NC hidden, 193 NC hidden, 194 NC hidden, 195 NC hidden, 196 NC hidden, 197 POR_B, 198 BOOT_MODE0, 199 ON/OFF, 200 BOOT_MODE1, 201 +3V3, 202 +3V3 hidden, 203 +3V3 hidden, 204 +3V3 hidden

## OPOS6UL_NANO
designator *  value OPOS6UL_NANO  Reference: U
ki_keywords: opos6ul compute module; ki_description: NXP i.MX6ULL/i.MX6UL, 256 or 512 MB RAM, industrial SoM computer, M.2M (NGFF); ki_fp_filters: *M.2*; Datasheet: http://www.opossom.com/_downloads/opos6ul_nano/datasheet_opos6ul_nano.pdf
pins: 1 +3V3, 2 +3V3 hidden, 3 VSNVS, 4 ~{{POR_B}}, 5 USB_OTG1_VBUS, 6 USB_OTG2_DN, 7 USB_OTG1_DN, 8 USB_OTG2_DP, 9 USB_OTG1_DP, 10 GND, 11 GND hidden, 12 GPIO9, 13 GPIO8, 14 UART4_RX, 15 GPIO3, 16 UART4_TX, 17 UART1_RX, 18 UART5_RX, 19 UART1_TX, 20 UART5_TX, 21 UART2_RX, 22 GND hidden, 23 UART2_TX, 24 LCD_D1, 25 GND hidden, 26 LCD_D3, 27 LCD_D0, 28 LCD_D5, 29 LCD_D2, 30 LCD_D7, 31 LCD_D4, 32 LCD_D9, 33 LCD_D6, 34 LCD_D11, 35 LCD_D8, 36 LCD_D13, 37 LCD_D10, 38 LCD_D15, 39 LCD_D12, 40 LCD_D17, 41 LCD_D14, 42 LCD_HSYNC, 43 LCD_D16, 44 LCD_VSYNC, 45 GND hidden, 46 LCD_ENABLE, 47 LCD_DOTCLK, 48 CSI_HSYNC, 49 GND hidden, 50 CSI_VSYNC, 51 CSI_PIXCLK, 52 CSI_D1, 53 CSI_MCLK, 54 CSI_D3, 55 CSI_D0, 56 CSI_D5, 57 CSI_D2, 58 CSI_D7, 67 CSI_D4, 68 ETH_LED1, 69 CSI_D6, 70 ETH_LED2, 71 GND hidden, 72 ETH_RXP, 73 ETH_TXP, 74 ETH_RXN, 75 ETH_TXN

## PocketBeagle
designator *  value PocketBeagle  Reference: U
ki_keywords: beagleboard pocketbeagle; ki_description: Singleboard computer with ARM Cortex-A8 1GHz, 512MB RAM; ki_fp_filters: BeagleBoard*PocketBeagle*; Footprint: Module:BeagleBoard_PocketBeagle; Datasheet: https://github.com/beagleboard/pocketbeagle/wiki/System-Reference-Manual
pins: 1 VIN, 2 AIN6/GPIO87, 3 USB1.DRVVBUS, 4 GPIO89, 5 USB1.VBUS, 6 SPI0.CS, 7 USB1.VIN, 8 SPI0.CLK, 9 USB1.D-, 10 SPI0.MISO, 11 USB1.D+, 12 SPI0.MOSI, 13 USB1.ID, 14 3.3V, 15 GND, 16 GND hidden, 17 AIN.VREF-, 18 AIN.VREF+, 19 AIN0(1.8V), 20 GPIO20, 21 AIN1(1.8V), 22 GND hidden, 23 AIN2(1.8V), 24 VOUT, 25 AIN3(1.8V), 26 I2C2.SDA, 27 AIN4(1.8V), 28 I2C2.SCL, 29 PRU0.7, 30 UART0.TX, 31 PRU0.4, 32 UART0.RX, 33 PRU0.1, 34 GPIO26, 35 PRU1.10, 36 PWM0A, 37 PWM1A, 38 GPIO59, 39 GPIO23, 40 GPIO58, 41 UART4.RX, 42 GPIO57, 43 UART4.TX, 44 GPIO60, 45 I2C1.SCL, 46 GPIO52, 47 I2C1.SDA, 48 PWR.BTN, 49 VOUT, 50 BAT.VIN, 51 GND hidden, 52 BAT.TEMP, 53 GPIO65, 54 GPIO47, 55 GPIO27, 56 GPIO64, 57 GND hidden, 58 GPIO46, 59 3.3V, 60 GPIO48, 61 SPI1.MOSI, 62 ~{{RESET}}, 63 SPI1.MISO, 64 PRU0.6, 65 SPI1.CLK, 66 PRU0.3, 67 SPI1.CS, 68 PRU0.2, 69 GPIO45, 70 PRU0.5, 71 AIN5(3.3V), 72 AIN7(1.8V)

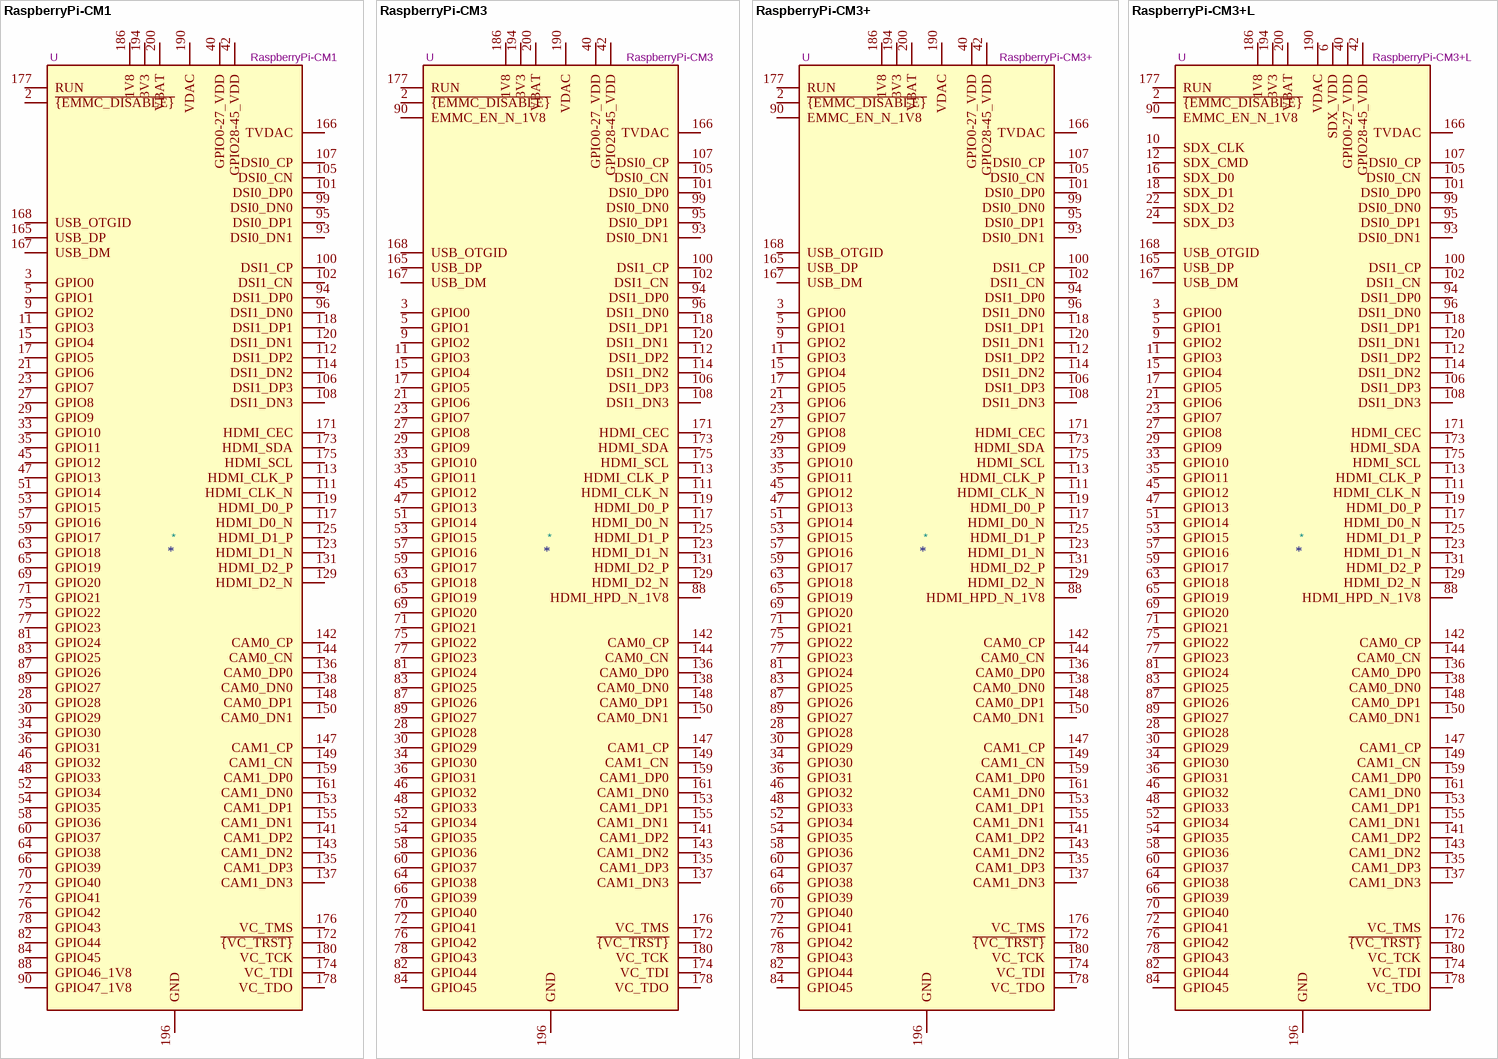
[diagram p7: symbols RaspberryPi-CM1 to RaspberryPi-CM3+L]